# Altium integrated library Atmel Microcontroller 32-Bit AVR UC3.IntLib: 109 symbols (part 6 of 15)
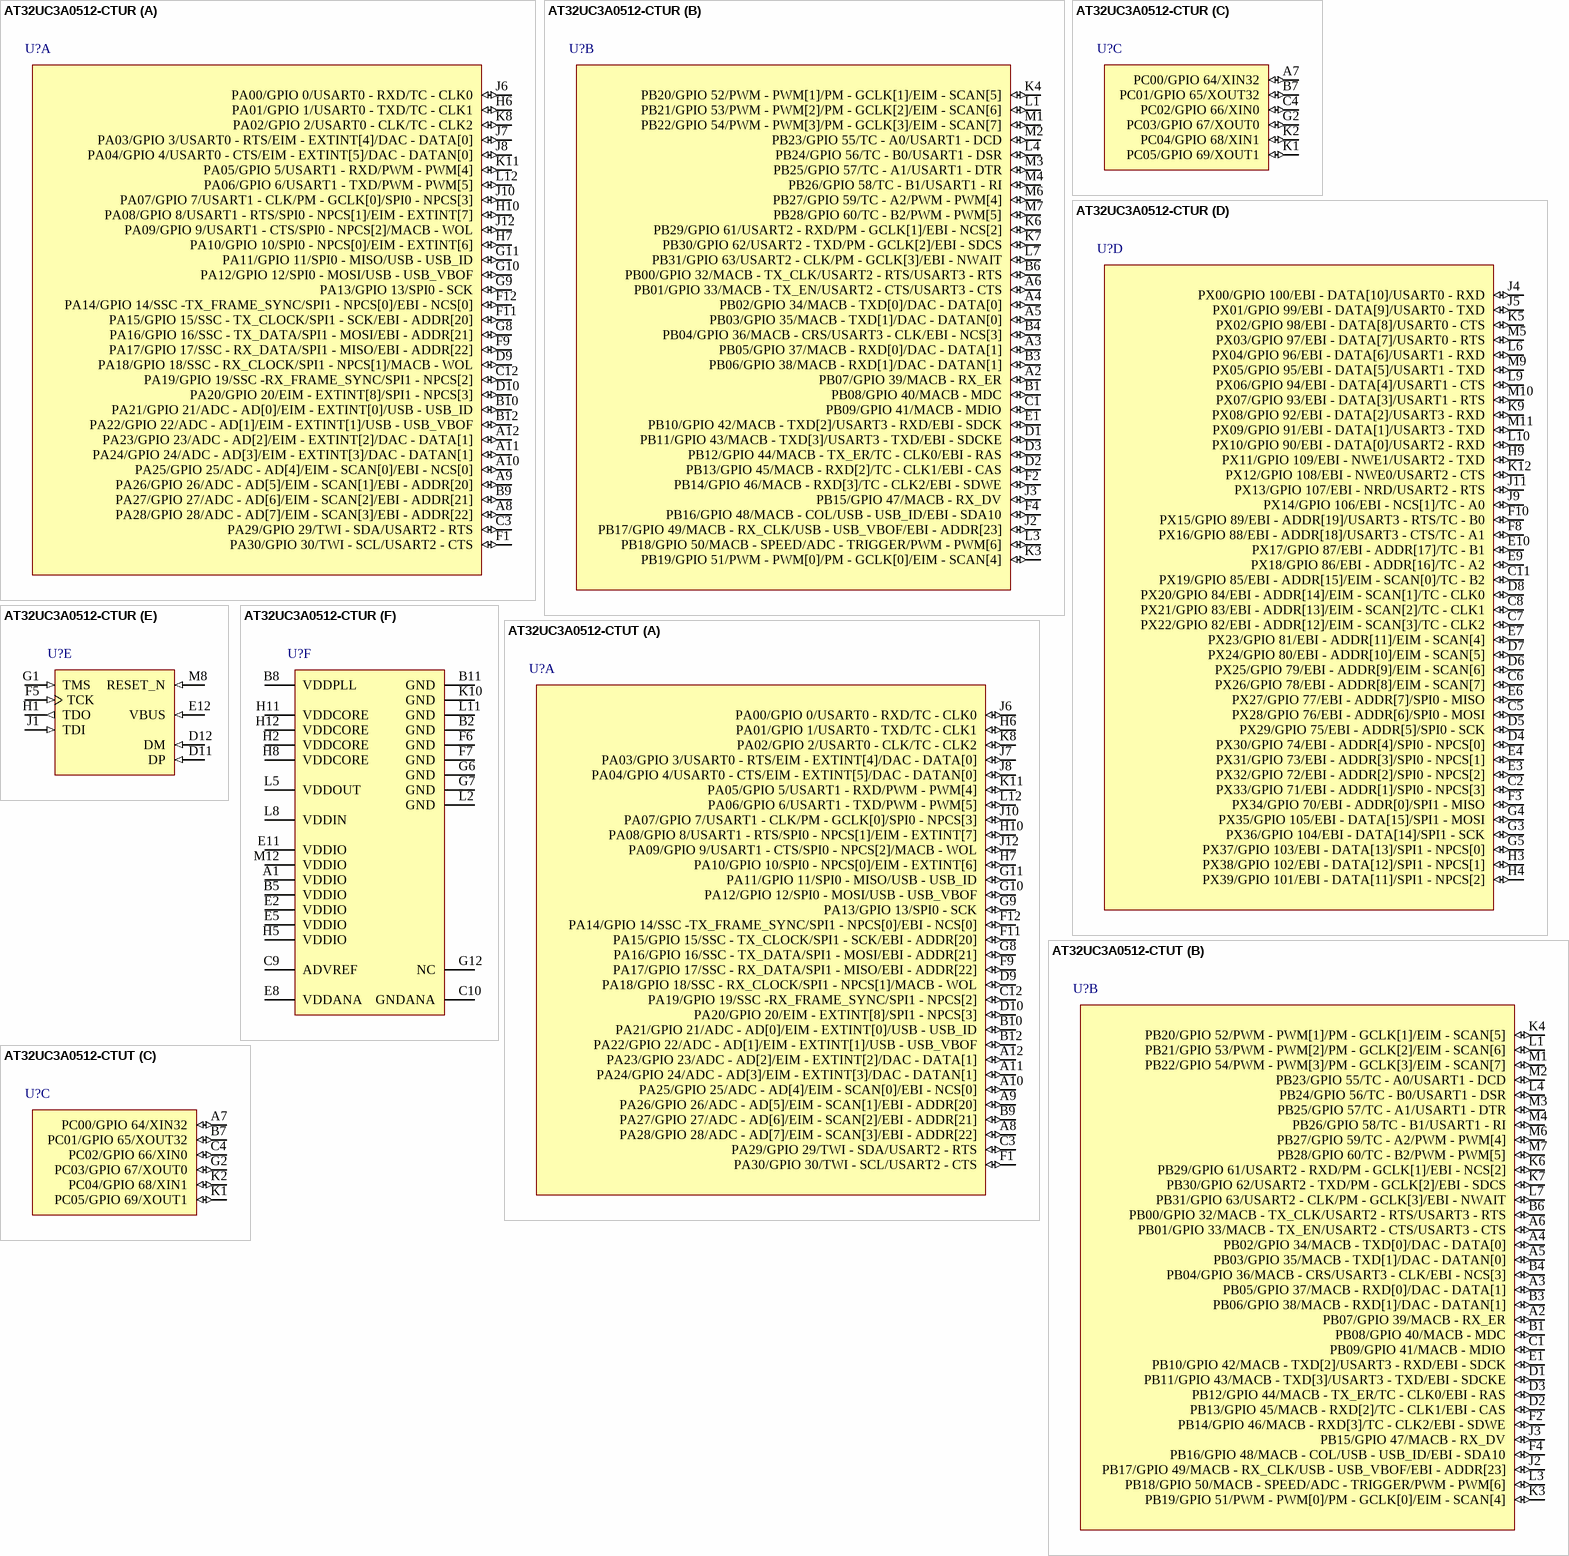
[diagram p75: symbols AT32UC3A0512-CTUR to AT32UC3A0512-CTUT]

## AT32UC3A0512-CTUR
designator U?
32-bit AVR UC3 Microcontroller, 512KB Flash, 64KB SRAM, 109 GPIO pins, Ext. Bus Interface, 144-Pin FFBGA, Industrial Grade, Reel; Published: 1-Apr-2010; DatasheetVersion: revI, Nov-2009; PackageVersion: 2009; PackageReference: FFBGA144; Publisher: Altium Limited; PackageDescription: 144-Ball Thin Fine Pitch BGA, 11 x 11 x 0.79 mm Body, 0.8 mm Pitch; Supplier 1: Digi-Key; Supplier Part Number 1: AT32UC3A0512-CTUR-ND; Supplier 2: Mouser; Supplier Part Number 2: 556-AT32UC3A0512CTUR; Code_JEDEC: MS-026; ComponentLink1Description: Manufacturer Link; ComponentLink1URL: http://www.atmel.com/products/avr/default.asp?; ComponentLink2Description: AT32UC3A Datasheet; ComponentLink2URL: http://www.atmel.com/dyn/resources/prod_documents/doc32058.pdf; ComponentLink3Description: AT32UC3A Summary; ComponentLink3URL: http://www.atmel.com/dyn/resources/prod_documents/32058S.pdf; ComponentLink4Description: Atmel.com Home; ComponentLink4URL: http://www.atmel.com
footprint FFBGA144 (BGA, 144-Leads, Body 11x11mm, Pitch 0.8mm)
part A pins: A8 PA28/GPIO 28/ADC - AD[7]/EIM - SCAN[3]/EBI - ADDR[22] (io), A9 PA26/GPIO 26/ADC - AD[5]/EIM - SCAN[1]/EBI - ADDR[20] (io), A10 PA25/GPIO 25/ADC - AD[4]/EIM - SCAN[0]/EBI - NCS[0] (io), A11 PA24/GPIO 24/ADC - AD[3]/EIM - EXTINT[3]/DAC - DATAN[1] (io), A12 PA23/GPIO 23/ADC - AD[2]/EIM - EXTINT[2]/DAC - DATA[1] (io), B9 PA27/GPIO 27/ADC - AD[6]/EIM - SCAN[2]/EBI - ADDR[21] (io), B10 PA21/GPIO 21/ADC - AD[0]/EIM - EXTINT[0]/USB - USB_ID (io), B12 PA22/GPIO 22/ADC - AD[1]/EIM - EXTINT[1]/USB - USB_VBOF (io), C3 PA29/GPIO 29/TWI - SDA/USART2 - RTS (io), C12 PA19/GPIO 19/SSC -RX_FRAME_SYNC/SPI1 - NPCS[2] (io), D9 PA18/GPIO 18/SSC - RX_CLOCK/SPI1 - NPCS[1]/MACB - WOL (io), D10 PA20/GPIO 20/EIM - EXTINT[8]/SPI1 - NPCS[3] (io), F1 PA30/GPIO 30/TWI - SCL/USART2 - CTS (io), F9 PA17/GPIO 17/SSC - RX_DATA/SPI1 - MISO/EBI - ADDR[22] (io), F11 PA15/GPIO 15/SSC - TX_CLOCK/SPI1 - SCK/EBI - ADDR[20] (io), F12 PA14/GPIO 14/SSC -TX_FRAME_SYNC/SPI1 - NPCS[0]/EBI - NCS[0] (io), G8 PA16/GPIO 16/SSC - TX_DATA/SPI1 - MOSI/EBI - ADDR[21] (io), G9 PA13/GPIO 13/SPI0 - SCK (io), G10 PA12/GPIO 12/SPI0 - MOSI/USB - USB_VBOF (io), G11 PA11/GPIO 11/SPI0 - MISO/USB - USB_ID (io), H6 PA01/GPIO 1/USART0 - TXD/TC - CLK1 (io), H7 PA10/GPIO 10/SPI0 - NPCS[0]/EIM - EXTINT[6] (io), H10 PA08/GPIO 8/USART1 - RTS/SPI0 - NPCS[1]/EIM - EXTINT[7] (io), J6 PA00/GPIO 0/USART0 - RXD/TC - CLK0 (io), J7 PA03/GPIO 3/USART0 - RTS/EIM - EXTINT[4]/DAC - DATA[0] (io), J8 PA04/GPIO 4/USART0 - CTS/EIM - EXTINT[5]/DAC - DATAN[0] (io), J10 PA07/GPIO 7/USART1 - CLK/PM - GCLK[0]/SPI0 - NPCS[3] (io), J12 PA09/GPIO 9/USART1 - CTS/SPI0 - NPCS[2]/MACB - WOL (io), K8 PA02/GPIO 2/USART0 - CLK/TC - CLK2 (io), K11 PA05/GPIO 5/USART1 - RXD/PWM - PWM[4] (io), L12 PA06/GPIO 6/USART1 - TXD/PWM - PWM[5] (io)
part B pins: A2 PB07/GPIO 39/MACB - RX_ER (io), A3 PB05/GPIO 37/MACB - RXD[0]/DAC - DATA[1] (io), A4 PB02/GPIO 34/MACB - TXD[0]/DAC - DATA[0] (io), A5 PB03/GPIO 35/MACB - TXD[1]/DAC - DATAN[0] (io), A6 PB01/GPIO 33/MACB - TX_EN/USART2 - CTS/USART3 - CTS (io), B1 PB08/GPIO 40/MACB - MDC (io), B3 PB06/GPIO 38/MACB - RXD[1]/DAC - DATAN[1] (io), B4 PB04/GPIO 36/MACB - CRS/USART3 - CLK/EBI - NCS[3] (io), B6 PB00/GPIO 32/MACB - TX_CLK/USART2 - RTS/USART3 - RTS (io), C1 PB09/GPIO 41/MACB - MDIO (io), D1 PB11/GPIO 43/MACB - TXD[3]/USART3 - TXD/EBI - SDCKE (io), D2 PB13/GPIO 45/MACB - RXD[2]/TC - CLK1/EBI - CAS (io), D3 PB12/GPIO 44/MACB - TX_ER/TC - CLK0/EBI - RAS (io), E1 PB10/GPIO 42/MACB - TXD[2]/USART3 - RXD/EBI - SDCK (io), F2 PB14/GPIO 46/MACB - RXD[3]/TC - CLK2/EBI - SDWE (io), F4 PB16/GPIO 48/MACB - COL/USB - USB_ID/EBI - SDA10 (io), J2 PB17/GPIO 49/MACB - RX_CLK/USB - USB_VBOF/EBI - ADDR[23] (io), J3 PB15/GPIO 47/MACB - RX_DV (io), K3 PB19/GPIO 51/PWM - PWM[0]/PM - GCLK[0]/EIM - SCAN[4] (io), K4 PB20/GPIO 52/PWM - PWM[1]/PM - GCLK[1]/EIM - SCAN[5] (io), K6 PB29/GPIO 61/USART2 - RXD/PM - GCLK[1]/EBI - NCS[2] (io), K7 PB30/GPIO 62/USART2 - TXD/PM - GCLK[2]/EBI - SDCS (io), L1 PB21/GPIO 53/PWM - PWM[2]/PM - GCLK[2]/EIM - SCAN[6] (io), L3 PB18/GPIO 50/MACB - SPEED/ADC - TRIGGER/PWM - PWM[6] (io), L4 PB24/GPIO 56/TC - B0/USART1 - DSR (io), L7 PB31/GPIO 63/USART2 - CLK/PM - GCLK[3]/EBI - NWAIT (io), M1 PB22/GPIO 54/PWM - PWM[3]/PM - GCLK[3]/EIM - SCAN[7] (io), M2 PB23/GPIO 55/TC - A0/USART1 - DCD (io), M3 PB25/GPIO 57/TC - A1/USART1 - DTR (io), M4 PB26/GPIO 58/TC - B1/USART1 - RI (io), M6 PB27/GPIO 59/TC - A2/PWM - PWM[4] (io), M7 PB28/GPIO 60/TC - B2/PWM - PWM[5] (io)
part C pins: A7 PC00/GPIO 64/XIN32 (io), B7 PC01/GPIO 65/XOUT32 (io), C4 PC02/GPIO 66/XIN0 (io), G2 PC03/GPIO 67/XOUT0 (io), K1 PC05/GPIO 69/XOUT1 (io), K2 PC04/GPIO 68/XIN1 (io)
part D pins: C2 PX33/GPIO 71/EBI - ADDR[1]/SPI0 - NPCS[3] (io), C5 PX28/GPIO 76/EBI - ADDR[6]/SPI0 - MOSI (io), C6 PX26/GPIO 78/EBI - ADDR[8]/EIM - SCAN[7] (io), C7 PX22/GPIO 82/EBI - ADDR[12]/EIM - SCAN[3]/TC - CLK2 (io), C8 PX21/GPIO 83/EBI - ADDR[13]/EIM - SCAN[2]/TC - CLK1 (io), C11 PX19/GPIO 85/EBI - ADDR[15]/EIM - SCAN[0]/TC - B2 (io), D4 PX30/GPIO 74/EBI - ADDR[4]/SPI0 - NPCS[0] (io), D5 PX29/GPIO 75/EBI - ADDR[5]/SPI0 - SCK (io), D6 PX25/GPIO 79/EBI - ADDR[9]/EIM - SCAN[6] (io), D7 PX24/GPIO 80/EBI - ADDR[10]/EIM - SCAN[5] (io), D8 PX20/GPIO 84/EBI - ADDR[14]/EIM - SCAN[1]/TC - CLK0 (io), E3 PX32/GPIO 72/EBI - ADDR[2]/SPI0 - NPCS[2] (io), E4 PX31/GPIO 73/EBI - ADDR[3]/SPI0 - NPCS[1] (io), E6 PX27/GPIO 77/EBI - ADDR[7]/SPI0 - MISO (io), E7 PX23/GPIO 81/EBI - ADDR[11]/EIM - SCAN[4] (io), E9 PX18/GPIO 86/EBI - ADDR[16]/TC - A2 (io), E10 PX17/GPIO 87/EBI - ADDR[17]/TC - B1 (io), F3 PX34/GPIO 70/EBI - ADDR[0]/SPI1 - MISO (io), F8 PX16/GPIO 88/EBI - ADDR[18]/USART3 - CTS/TC - A1 (io), F10 PX15/GPIO 89/EBI - ADDR[19]/USART3 - RTS/TC - B0 (io), G3 PX36/GPIO 104/EBI - DATA[14]/SPI1 - SCK (io), G4 PX35/GPIO 105/EBI - DATA[15]/SPI1 - MOSI (io), G5 PX37/GPIO 103/EBI - DATA[13]/SPI1 - NPCS[0] (io), H3 PX38/GPIO 102/EBI - DATA[12]/SPI1 - NPCS[1] (io), H4 PX39/GPIO 101/EBI - DATA[11]/SPI1 - NPCS[2] (io), H9 PX11/GPIO 109/EBI - NWE1/USART2 - TXD (io), J4 PX00/GPIO 100/EBI - DATA[10]/USART0 - RXD (io), J5 PX01/GPIO 99/EBI - DATA[9]/USART0 - TXD (io), J9 PX14/GPIO 106/EBI - NCS[1]/TC - A0 (io), J11 PX13/GPIO 107/EBI - NRD/USART2 - RTS (io), K5 PX02/GPIO 98/EBI - DATA[8]/USART0 - CTS (io), K9 PX08/GPIO 92/EBI - DATA[2]/USART3 - RXD (io), K12 PX12/GPIO 108/EBI - NWE0/USART2 - CTS (io), L6 PX04/GPIO 96/EBI - DATA[6]/USART1 - RXD (io), L9 PX06/GPIO 94/EBI - DATA[4]/USART1 - CTS (io), L10 PX10/GPIO 90/EBI - DATA[0]/USART2 - RXD (io), M5 PX03/GPIO 97/EBI - DATA[7]/USART0 - RTS (io), M9 PX05/GPIO 95/EBI - DATA[5]/USART1 - TXD (io), M10 PX07/GPIO 93/EBI - DATA[3]/USART1 - RTS (io), M11 PX09/GPIO 91/EBI - DATA[1]/USART3 - TXD (io)
part E pins: D11 DP (in), D12 DM (in), E12 VBUS (in), F5 TCK (in), G1 TMS (in), H1 TDO (out), J1 TDI (in), M8 RESET_N (in)
part F pins: A1 VDDIO (power), B2 GND (power), B5 VDDIO (power), B8 VDDPLL (power), B11 GND (power), C9 ADVREF (power), C10 GNDANA (power), E2 VDDIO (power), E5 VDDIO (power), E8 VDDANA (power), E11 VDDIO (power), F6 GND (power), F7 GND (power), G6 GND (power), G7 GND (power), G12 NC, H2 VDDCORE (power), H5 VDDIO (power), H8 VDDCORE (power), H11 VDDCORE (power), H12 VDDCORE (power), K10 GND (power), L2 GND (power), L5 VDDOUT (power), L8 VDDIN (power), L11 GND (power), M12 VDDIO (power)

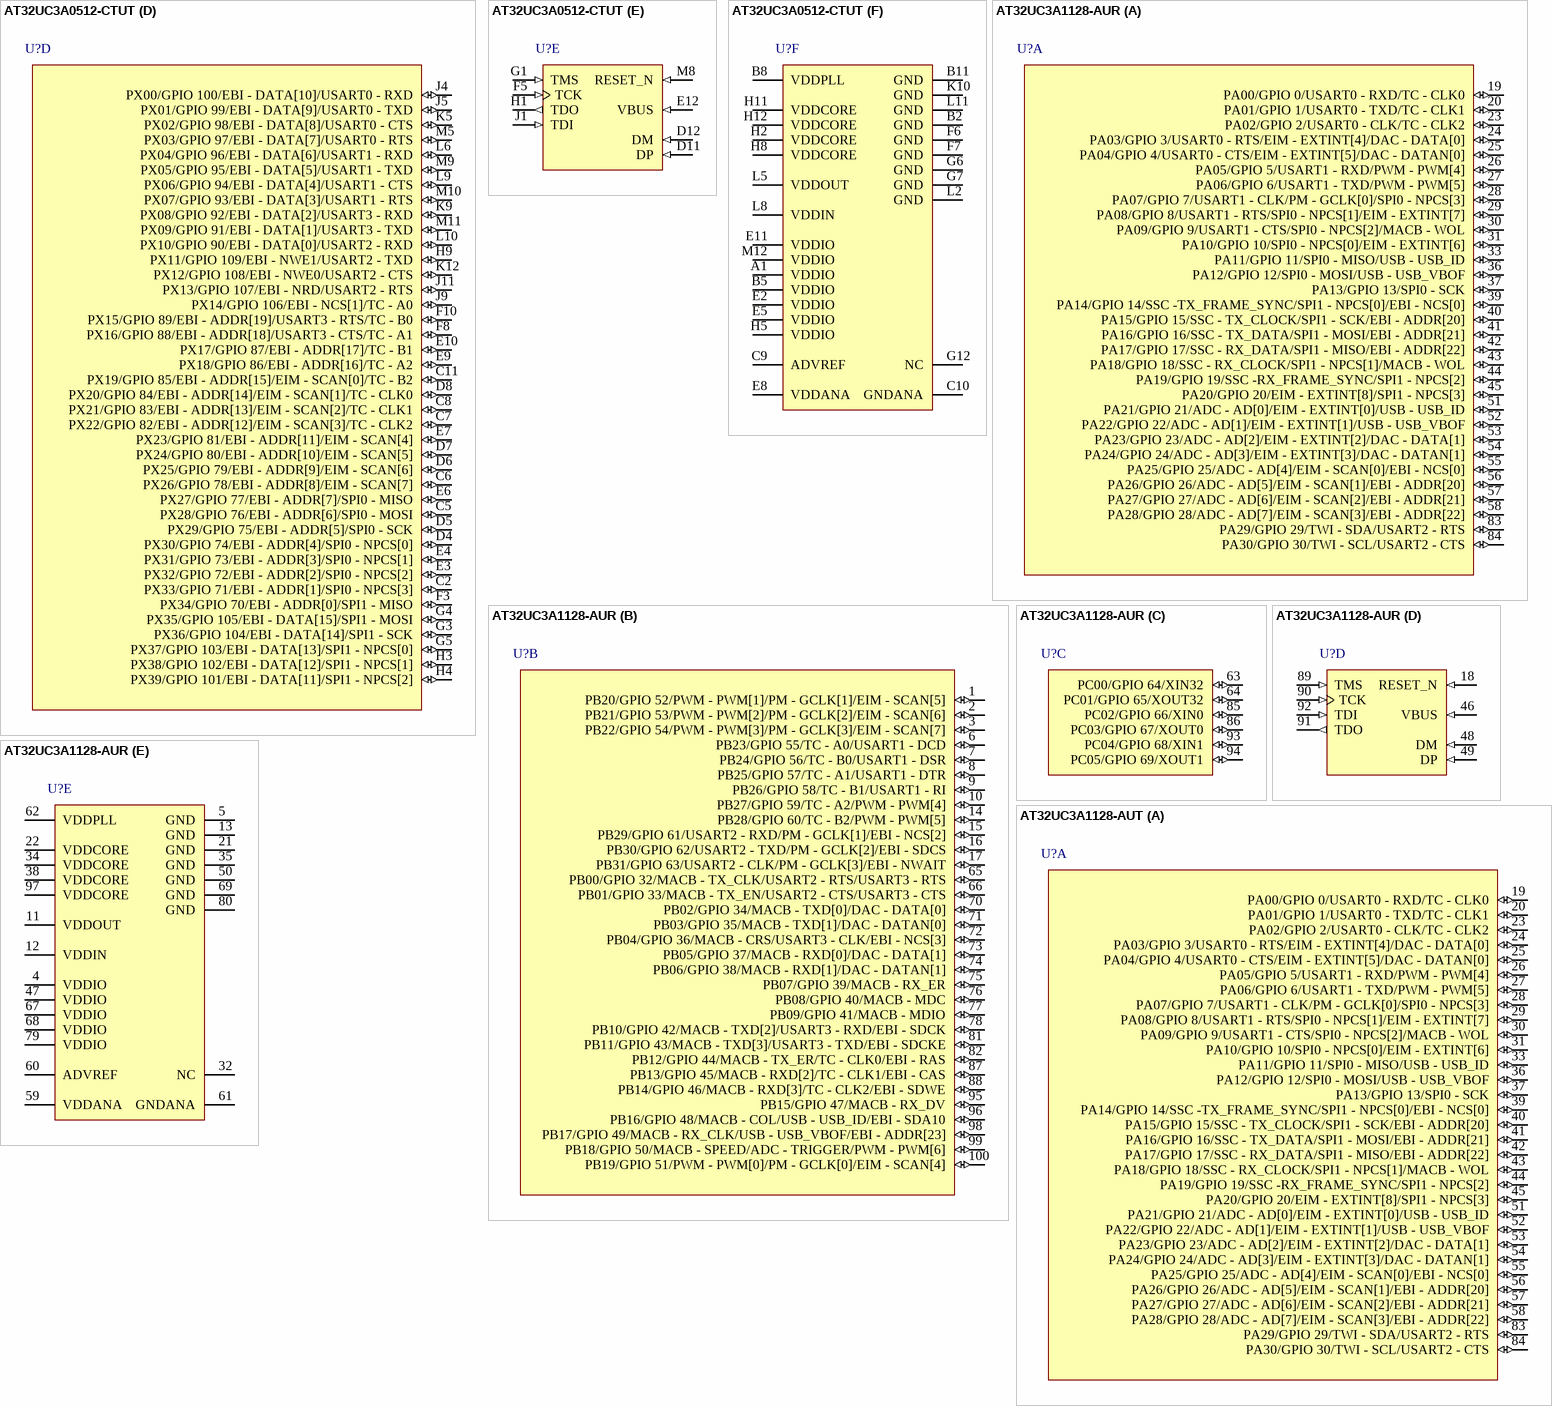
[diagram p24: symbols AT32UC3A0512-CTUT to AT32UC3A1128-AUT]

## AT32UC3A0512-CTUT
designator U?
32-bit AVR UC3 Microcontroller, 512KB Flash, 64KB SRAM, 109 GPIO pins, Ext. Bus Interface, 144-Pin FFBGA, Industrial Grade, Tray; Published: 1-Apr-2010; DatasheetVersion: revI, Nov-2009; PackageVersion: 2009; PackageReference: FFBGA144; Publisher: Altium Limited; PackageDescription: 144-Ball Thin Fine Pitch BGA, 11 x 11 x 0.79 mm Body, 0.8 mm Pitch; Supplier 1: Digi-Key; Supplier Part Number 1: AT32UC3A0512-CTUT-ND; Supplier 2: Mouser; Supplier Part Number 2: 556-AT32UC3A0512CTUT; Code_JEDEC: MS-026; ComponentLink1Description: Manufacturer Link; ComponentLink1URL: http://www.atmel.com/products/avr/default.asp?; ComponentLink2Description: AT32UC3A Datasheet; ComponentLink2URL: http://www.atmel.com/dyn/resources/prod_documents/doc32058.pdf; ComponentLink3Description: AT32UC3A Summary; ComponentLink3URL: http://www.atmel.com/dyn/resources/prod_documents/32058S.pdf; ComponentLink4Description: Atmel.com Home; ComponentLink4URL: http://www.atmel.com
footprint FFBGA144 (BGA, 144-Leads, Body 11x11mm, Pitch 0.8mm)
part A pins: A8 PA28/GPIO 28/ADC - AD[7]/EIM - SCAN[3]/EBI - ADDR[22] (io), A9 PA26/GPIO 26/ADC - AD[5]/EIM - SCAN[1]/EBI - ADDR[20] (io), A10 PA25/GPIO 25/ADC - AD[4]/EIM - SCAN[0]/EBI - NCS[0] (io), A11 PA24/GPIO 24/ADC - AD[3]/EIM - EXTINT[3]/DAC - DATAN[1] (io), A12 PA23/GPIO 23/ADC - AD[2]/EIM - EXTINT[2]/DAC - DATA[1] (io), B9 PA27/GPIO 27/ADC - AD[6]/EIM - SCAN[2]/EBI - ADDR[21] (io), B10 PA21/GPIO 21/ADC - AD[0]/EIM - EXTINT[0]/USB - USB_ID (io), B12 PA22/GPIO 22/ADC - AD[1]/EIM - EXTINT[1]/USB - USB_VBOF (io), C3 PA29/GPIO 29/TWI - SDA/USART2 - RTS (io), C12 PA19/GPIO 19/SSC -RX_FRAME_SYNC/SPI1 - NPCS[2] (io), D9 PA18/GPIO 18/SSC - RX_CLOCK/SPI1 - NPCS[1]/MACB - WOL (io), D10 PA20/GPIO 20/EIM - EXTINT[8]/SPI1 - NPCS[3] (io), F1 PA30/GPIO 30/TWI - SCL/USART2 - CTS (io), F9 PA17/GPIO 17/SSC - RX_DATA/SPI1 - MISO/EBI - ADDR[22] (io), F11 PA15/GPIO 15/SSC - TX_CLOCK/SPI1 - SCK/EBI - ADDR[20] (io), F12 PA14/GPIO 14/SSC -TX_FRAME_SYNC/SPI1 - NPCS[0]/EBI - NCS[0] (io), G8 PA16/GPIO 16/SSC - TX_DATA/SPI1 - MOSI/EBI - ADDR[21] (io), G9 PA13/GPIO 13/SPI0 - SCK (io), G10 PA12/GPIO 12/SPI0 - MOSI/USB - USB_VBOF (io), G11 PA11/GPIO 11/SPI0 - MISO/USB - USB_ID (io), H6 PA01/GPIO 1/USART0 - TXD/TC - CLK1 (io), H7 PA10/GPIO 10/SPI0 - NPCS[0]/EIM - EXTINT[6] (io), H10 PA08/GPIO 8/USART1 - RTS/SPI0 - NPCS[1]/EIM - EXTINT[7] (io), J6 PA00/GPIO 0/USART0 - RXD/TC - CLK0 (io), J7 PA03/GPIO 3/USART0 - RTS/EIM - EXTINT[4]/DAC - DATA[0] (io), J8 PA04/GPIO 4/USART0 - CTS/EIM - EXTINT[5]/DAC - DATAN[0] (io), J10 PA07/GPIO 7/USART1 - CLK/PM - GCLK[0]/SPI0 - NPCS[3] (io), J12 PA09/GPIO 9/USART1 - CTS/SPI0 - NPCS[2]/MACB - WOL (io), K8 PA02/GPIO 2/USART0 - CLK/TC - CLK2 (io), K11 PA05/GPIO 5/USART1 - RXD/PWM - PWM[4] (io), L12 PA06/GPIO 6/USART1 - TXD/PWM - PWM[5] (io)
part B pins: A2 PB07/GPIO 39/MACB - RX_ER (io), A3 PB05/GPIO 37/MACB - RXD[0]/DAC - DATA[1] (io), A4 PB02/GPIO 34/MACB - TXD[0]/DAC - DATA[0] (io), A5 PB03/GPIO 35/MACB - TXD[1]/DAC - DATAN[0] (io), A6 PB01/GPIO 33/MACB - TX_EN/USART2 - CTS/USART3 - CTS (io), B1 PB08/GPIO 40/MACB - MDC (io), B3 PB06/GPIO 38/MACB - RXD[1]/DAC - DATAN[1] (io), B4 PB04/GPIO 36/MACB - CRS/USART3 - CLK/EBI - NCS[3] (io), B6 PB00/GPIO 32/MACB - TX_CLK/USART2 - RTS/USART3 - RTS (io), C1 PB09/GPIO 41/MACB - MDIO (io), D1 PB11/GPIO 43/MACB - TXD[3]/USART3 - TXD/EBI - SDCKE (io), D2 PB13/GPIO 45/MACB - RXD[2]/TC - CLK1/EBI - CAS (io), D3 PB12/GPIO 44/MACB - TX_ER/TC - CLK0/EBI - RAS (io), E1 PB10/GPIO 42/MACB - TXD[2]/USART3 - RXD/EBI - SDCK (io), F2 PB14/GPIO 46/MACB - RXD[3]/TC - CLK2/EBI - SDWE (io), F4 PB16/GPIO 48/MACB - COL/USB - USB_ID/EBI - SDA10 (io), J2 PB17/GPIO 49/MACB - RX_CLK/USB - USB_VBOF/EBI - ADDR[23] (io), J3 PB15/GPIO 47/MACB - RX_DV (io), K3 PB19/GPIO 51/PWM - PWM[0]/PM - GCLK[0]/EIM - SCAN[4] (io), K4 PB20/GPIO 52/PWM - PWM[1]/PM - GCLK[1]/EIM - SCAN[5] (io), K6 PB29/GPIO 61/USART2 - RXD/PM - GCLK[1]/EBI - NCS[2] (io), K7 PB30/GPIO 62/USART2 - TXD/PM - GCLK[2]/EBI - SDCS (io), L1 PB21/GPIO 53/PWM - PWM[2]/PM - GCLK[2]/EIM - SCAN[6] (io), L3 PB18/GPIO 50/MACB - SPEED/ADC - TRIGGER/PWM - PWM[6] (io), L4 PB24/GPIO 56/TC - B0/USART1 - DSR (io), L7 PB31/GPIO 63/USART2 - CLK/PM - GCLK[3]/EBI - NWAIT (io), M1 PB22/GPIO 54/PWM - PWM[3]/PM - GCLK[3]/EIM - SCAN[7] (io), M2 PB23/GPIO 55/TC - A0/USART1 - DCD (io), M3 PB25/GPIO 57/TC - A1/USART1 - DTR (io), M4 PB26/GPIO 58/TC - B1/USART1 - RI (io), M6 PB27/GPIO 59/TC - A2/PWM - PWM[4] (io), M7 PB28/GPIO 60/TC - B2/PWM - PWM[5] (io)
part C pins: A7 PC00/GPIO 64/XIN32 (io), B7 PC01/GPIO 65/XOUT32 (io), C4 PC02/GPIO 66/XIN0 (io), G2 PC03/GPIO 67/XOUT0 (io), K1 PC05/GPIO 69/XOUT1 (io), K2 PC04/GPIO 68/XIN1 (io)
part D pins: C2 PX33/GPIO 71/EBI - ADDR[1]/SPI0 - NPCS[3] (io), C5 PX28/GPIO 76/EBI - ADDR[6]/SPI0 - MOSI (io), C6 PX26/GPIO 78/EBI - ADDR[8]/EIM - SCAN[7] (io), C7 PX22/GPIO 82/EBI - ADDR[12]/EIM - SCAN[3]/TC - CLK2 (io), C8 PX21/GPIO 83/EBI - ADDR[13]/EIM - SCAN[2]/TC - CLK1 (io), C11 PX19/GPIO 85/EBI - ADDR[15]/EIM - SCAN[0]/TC - B2 (io), D4 PX30/GPIO 74/EBI - ADDR[4]/SPI0 - NPCS[0] (io), D5 PX29/GPIO 75/EBI - ADDR[5]/SPI0 - SCK (io), D6 PX25/GPIO 79/EBI - ADDR[9]/EIM - SCAN[6] (io), D7 PX24/GPIO 80/EBI - ADDR[10]/EIM - SCAN[5] (io), D8 PX20/GPIO 84/EBI - ADDR[14]/EIM - SCAN[1]/TC - CLK0 (io), E3 PX32/GPIO 72/EBI - ADDR[2]/SPI0 - NPCS[2] (io), E4 PX31/GPIO 73/EBI - ADDR[3]/SPI0 - NPCS[1] (io), E6 PX27/GPIO 77/EBI - ADDR[7]/SPI0 - MISO (io), E7 PX23/GPIO 81/EBI - ADDR[11]/EIM - SCAN[4] (io), E9 PX18/GPIO 86/EBI - ADDR[16]/TC - A2 (io), E10 PX17/GPIO 87/EBI - ADDR[17]/TC - B1 (io), F3 PX34/GPIO 70/EBI - ADDR[0]/SPI1 - MISO (io), F8 PX16/GPIO 88/EBI - ADDR[18]/USART3 - CTS/TC - A1 (io), F10 PX15/GPIO 89/EBI - ADDR[19]/USART3 - RTS/TC - B0 (io), G3 PX36/GPIO 104/EBI - DATA[14]/SPI1 - SCK (io), G4 PX35/GPIO 105/EBI - DATA[15]/SPI1 - MOSI (io), G5 PX37/GPIO 103/EBI - DATA[13]/SPI1 - NPCS[0] (io), H3 PX38/GPIO 102/EBI - DATA[12]/SPI1 - NPCS[1] (io), H4 PX39/GPIO 101/EBI - DATA[11]/SPI1 - NPCS[2] (io), H9 PX11/GPIO 109/EBI - NWE1/USART2 - TXD (io), J4 PX00/GPIO 100/EBI - DATA[10]/USART0 - RXD (io), J5 PX01/GPIO 99/EBI - DATA[9]/USART0 - TXD (io), J9 PX14/GPIO 106/EBI - NCS[1]/TC - A0 (io), J11 PX13/GPIO 107/EBI - NRD/USART2 - RTS (io), K5 PX02/GPIO 98/EBI - DATA[8]/USART0 - CTS (io), K9 PX08/GPIO 92/EBI - DATA[2]/USART3 - RXD (io), K12 PX12/GPIO 108/EBI - NWE0/USART2 - CTS (io), L6 PX04/GPIO 96/EBI - DATA[6]/USART1 - RXD (io), L9 PX06/GPIO 94/EBI - DATA[4]/USART1 - CTS (io), L10 PX10/GPIO 90/EBI - DATA[0]/USART2 - RXD (io), M5 PX03/GPIO 97/EBI - DATA[7]/USART0 - RTS (io), M9 PX05/GPIO 95/EBI - DATA[5]/USART1 - TXD (io), M10 PX07/GPIO 93/EBI - DATA[3]/USART1 - RTS (io), M11 PX09/GPIO 91/EBI - DATA[1]/USART3 - TXD (io)
part E pins: D11 DP (in), D12 DM (in), E12 VBUS (in), F5 TCK (in), G1 TMS (in), H1 TDO (out), J1 TDI (in), M8 RESET_N (in)
part F pins: A1 VDDIO (power), B2 GND (power), B5 VDDIO (power), B8 VDDPLL (power), B11 GND (power), C9 ADVREF (power), C10 GNDANA (power), E2 VDDIO (power), E5 VDDIO (power), E8 VDDANA (power), E11 VDDIO (power), F6 GND (power), F7 GND (power), G6 GND (power), G7 GND (power), G12 NC, H2 VDDCORE (power), H5 VDDIO (power), H8 VDDCORE (power), H11 VDDCORE (power), H12 VDDCORE (power), K10 GND (power), L2 GND (power), L5 VDDOUT (power), L8 VDDIN (power), L11 GND (power), M12 VDDIO (power)

## AT32UC3A1128-AUR
designator U?
32-bit AVR UC3 Microcontroller, 128KB Flash, 32KB SRAM, 69 GPIO pins, 100-Pin TQFP, Industrial Grade, Reel; Published: 1-Apr-2010; DatasheetVersion: revI, Nov-2009; PackageVersion: rev.A, Nov-2001; PackageReference: 100T1; Publisher: Altium Limited; PackageDescription: 100-Pin Thin Quad Flat Pack 0.5 mm Pitch; Supplier 1: Digi-Key; Supplier Part Number 1: AT32UC3A1128-AUR-ND; Supplier 2: Mouser; Supplier Part Number 2: 556-AT32UC3A1128-AUR; Code_JEDEC: MS-026-AED; ComponentLink1Description: Manufacturer Link; ComponentLink1URL: http://www.atmel.com/products/avr/default.asp?; ComponentLink2Description: AT32UC3A Datasheet; ComponentLink2URL: http://www.atmel.com/dyn/resources/prod_documents/doc32058.pdf; ComponentLink3Description: AT32UC3A Summary; ComponentLink3URL: http://www.atmel.com/dyn/resources/prod_documents/32058S.pdf; ComponentLink4Description: Atmel.com Home; ComponentLink4URL: http://www.atmel.com
footprint 100T1_N (Thin QFP, 100-Leads, Body 14x14mm, Pitch 0.5mm, IPC Medium Density)
footprint 100T1_L (Thin QFP, 100-Leads, Body 14x14mm, Pitch 0.5mm, IPC High Density)
footprint 100T1_M (Thin QFP, 100-Leads, Body 14x14mm, Pitch 0.5mm, IPC Low Density)
part A pins: 19 PA00/GPIO 0/USART0 - RXD/TC - CLK0 (io), 20 PA01/GPIO 1/USART0 - TXD/TC - CLK1 (io), 23 PA02/GPIO 2/USART0 - CLK/TC - CLK2 (io), 24 PA03/GPIO 3/USART0 - RTS/EIM - EXTINT[4]/DAC - DATA[0] (io), 25 PA04/GPIO 4/USART0 - CTS/EIM - EXTINT[5]/DAC - DATAN[0] (io), 26 PA05/GPIO 5/USART1 - RXD/PWM - PWM[4] (io), 27 PA06/GPIO 6/USART1 - TXD/PWM - PWM[5] (io), 28 PA07/GPIO 7/USART1 - CLK/PM - GCLK[0]/SPI0 - NPCS[3] (io), 29 PA08/GPIO 8/USART1 - RTS/SPI0 - NPCS[1]/EIM - EXTINT[7] (io), 30 PA09/GPIO 9/USART1 - CTS/SPI0 - NPCS[2]/MACB - WOL (io), 31 PA10/GPIO 10/SPI0 - NPCS[0]/EIM - EXTINT[6] (io), 33 PA11/GPIO 11/SPI0 - MISO/USB - USB_ID (io), 36 PA12/GPIO 12/SPI0 - MOSI/USB - USB_VBOF (io), 37 PA13/GPIO 13/SPI0 - SCK (io), 39 PA14/GPIO 14/SSC -TX_FRAME_SYNC/SPI1 - NPCS[0]/EBI - NCS[0] (io), 40 PA15/GPIO 15/SSC - TX_CLOCK/SPI1 - SCK/EBI - ADDR[20] (io), 41 PA16/GPIO 16/SSC - TX_DATA/SPI1 - MOSI/EBI - ADDR[21] (io), 42 PA17/GPIO 17/SSC - RX_DATA/SPI1 - MISO/EBI - ADDR[22] (io), 43 PA18/GPIO 18/SSC - RX_CLOCK/SPI1 - NPCS[1]/MACB - WOL (io), 44 PA19/GPIO 19/SSC -RX_FRAME_SYNC/SPI1 - NPCS[2] (io), 45 PA20/GPIO 20/EIM - EXTINT[8]/SPI1 - NPCS[3] (io), 51 PA21/GPIO 21/ADC - AD[0]/EIM - EXTINT[0]/USB - USB_ID (io), 52 PA22/GPIO 22/ADC - AD[1]/EIM - EXTINT[1]/USB - USB_VBOF (io), 53 PA23/GPIO 23/ADC - AD[2]/EIM - EXTINT[2]/DAC - DATA[1] (io), 54 PA24/GPIO 24/ADC - AD[3]/EIM - EXTINT[3]/DAC - DATAN[1] (io), 55 PA25/GPIO 25/ADC - AD[4]/EIM - SCAN[0]/EBI - NCS[0] (io), 56 PA26/GPIO 26/ADC - AD[5]/EIM - SCAN[1]/EBI - ADDR[20] (io), 57 PA27/GPIO 27/ADC - AD[6]/EIM - SCAN[2]/EBI - ADDR[21] (io), 58 PA28/GPIO 28/ADC - AD[7]/EIM - SCAN[3]/EBI - ADDR[22] (io), 83 PA29/GPIO 29/TWI - SDA/USART2 - RTS (io), 84 PA30/GPIO 30/TWI - SCL/USART2 - CTS (io)
part B pins: 1 PB20/GPIO 52/PWM - PWM[1]/PM - GCLK[1]/EIM - SCAN[5] (io), 2 PB21/GPIO 53/PWM - PWM[2]/PM - GCLK[2]/EIM - SCAN[6] (io), 3 PB22/GPIO 54/PWM - PWM[3]/PM - GCLK[3]/EIM - SCAN[7] (io), 6 PB23/GPIO 55/TC - A0/USART1 - DCD (io), 7 PB24/GPIO 56/TC - B0/USART1 - DSR (io), 8 PB25/GPIO 57/TC - A1/USART1 - DTR (io), 9 PB26/GPIO 58/TC - B1/USART1 - RI (io), 10 PB27/GPIO 59/TC - A2/PWM - PWM[4] (io), 14 PB28/GPIO 60/TC - B2/PWM - PWM[5] (io), 15 PB29/GPIO 61/USART2 - RXD/PM - GCLK[1]/EBI - NCS[2] (io), 16 PB30/GPIO 62/USART2 - TXD/PM - GCLK[2]/EBI - SDCS (io), 17 PB31/GPIO 63/USART2 - CLK/PM - GCLK[3]/EBI - NWAIT (io), 65 PB00/GPIO 32/MACB - TX_CLK/USART2 - RTS/USART3 - RTS (io), 66 PB01/GPIO 33/MACB - TX_EN/USART2 - CTS/USART3 - CTS (io), 70 PB02/GPIO 34/MACB - TXD[0]/DAC - DATA[0] (io), 71 PB03/GPIO 35/MACB - TXD[1]/DAC - DATAN[0] (io), 72 PB04/GPIO 36/MACB - CRS/USART3 - CLK/EBI - NCS[3] (io), 73 PB05/GPIO 37/MACB - RXD[0]/DAC - DATA[1] (io), 74 PB06/GPIO 38/MACB - RXD[1]/DAC - DATAN[1] (io), 75 PB07/GPIO 39/MACB - RX_ER (io), 76 PB08/GPIO 40/MACB - MDC (io), 77 PB09/GPIO 41/MACB - MDIO (io), 78 PB10/GPIO 42/MACB - TXD[2]/USART3 - RXD/EBI - SDCK (io), 81 PB11/GPIO 43/MACB - TXD[3]/USART3 - TXD/EBI - SDCKE (io), 82 PB12/GPIO 44/MACB - TX_ER/TC - CLK0/EBI - RAS (io), 87 PB13/GPIO 45/MACB - RXD[2]/TC - CLK1/EBI - CAS (io), 88 PB14/GPIO 46/MACB - RXD[3]/TC - CLK2/EBI - SDWE (io), 95 PB15/GPIO 47/MACB - RX_DV (io), 96 PB16/GPIO 48/MACB - COL/USB - USB_ID/EBI - SDA10 (io), 98 PB17/GPIO 49/MACB - RX_CLK/USB - USB_VBOF/EBI - ADDR[23] (io), 99 PB18/GPIO 50/MACB - SPEED/ADC - TRIGGER/PWM - PWM[6] (io), 100 PB19/GPIO 51/PWM - PWM[0]/PM - GCLK[0]/EIM - SCAN[4] (io)
part C pins: 63 PC00/GPIO 64/XIN32 (io), 64 PC01/GPIO 65/XOUT32 (io), 85 PC02/GPIO 66/XIN0 (io), 86 PC03/GPIO 67/XOUT0 (io), 93 PC04/GPIO 68/XIN1 (io), 94 PC05/GPIO 69/XOUT1 (io)
part D pins: 18 RESET_N (in), 46 VBUS (in), 48 DM (in), 49 DP (in), 89 TMS (in), 90 TCK (in), 91 TDO (out), 92 TDI (in)
part E pins: 4 VDDIO (power), 5 GND (power), 11 VDDOUT (power), 12 VDDIN (power), 13 GND (power), 21 GND (power), 22 VDDCORE (power), 32 NC, 34 VDDCORE (power), 35 GND (power), 38 VDDCORE (power), 47 VDDIO (power), 50 GND (power), 59 VDDANA (power), 60 ADVREF (power), 61 GNDANA (power), 62 VDDPLL (power), 67 VDDIO (power), 68 VDDIO (power), 69 GND (power), 79 VDDIO (power), 80 GND (power), 97 VDDCORE (power)

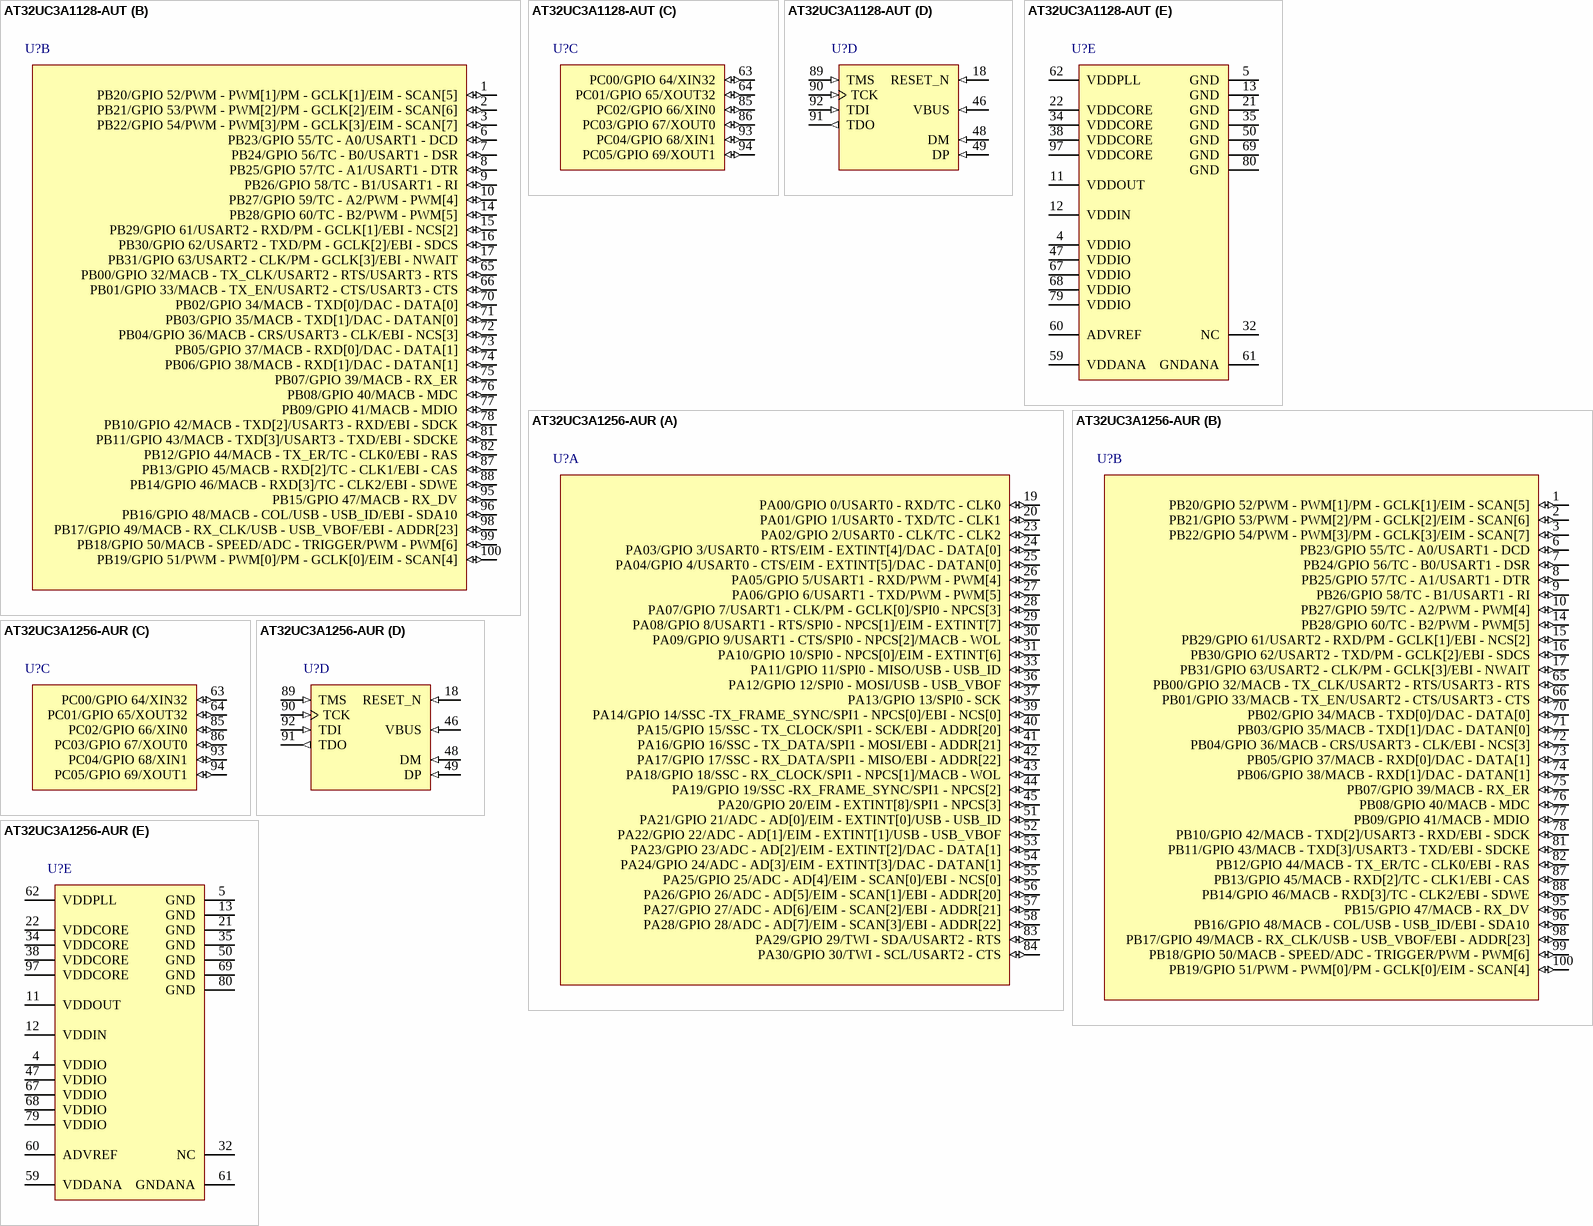
[diagram p25: symbols AT32UC3A1128-AUT to AT32UC3A1256-AUR]

## AT32UC3A1128-AUT
designator U?
32-bit AVR UC3 Microcontroller, 128KB Flash, 32KB SRAM, 69 GPIO pins, 100-Pin TQFP, Industrial Grade, Tray; Published: 1-Apr-2010; DatasheetVersion: revI, Nov-2009; PackageVersion: rev.A, Nov-2001; PackageReference: 100T1; Publisher: Altium Limited; PackageDescription: 100-Pin Thin Quad Flat Pack 0.5 mm Pitch; Supplier 1: Digi-Key; Supplier Part Number 1: AT32UC3A1128-AUT-ND; Supplier 2: Mouser; Supplier Part Number 2: 556-AT32UC3A1128-AUT; Code_JEDEC: MS-026-AED; ComponentLink1Description: Manufacturer Link; ComponentLink1URL: http://www.atmel.com/products/avr/default.asp?; ComponentLink2Description: AT32UC3A Datasheet; ComponentLink2URL: http://www.atmel.com/dyn/resources/prod_documents/doc32058.pdf; ComponentLink3Description: AT32UC3A Summary; ComponentLink3URL: http://www.atmel.com/dyn/resources/prod_documents/32058S.pdf; ComponentLink4Description: Atmel.com Home; ComponentLink4URL: http://www.atmel.com
footprint 100T1_N (Thin QFP, 100-Leads, Body 14x14mm, Pitch 0.5mm, IPC Medium Density)
footprint 100T1_L (Thin QFP, 100-Leads, Body 14x14mm, Pitch 0.5mm, IPC High Density)
footprint 100T1_M (Thin QFP, 100-Leads, Body 14x14mm, Pitch 0.5mm, IPC Low Density)
part A pins: 19 PA00/GPIO 0/USART0 - RXD/TC - CLK0 (io), 20 PA01/GPIO 1/USART0 - TXD/TC - CLK1 (io), 23 PA02/GPIO 2/USART0 - CLK/TC - CLK2 (io), 24 PA03/GPIO 3/USART0 - RTS/EIM - EXTINT[4]/DAC - DATA[0] (io), 25 PA04/GPIO 4/USART0 - CTS/EIM - EXTINT[5]/DAC - DATAN[0] (io), 26 PA05/GPIO 5/USART1 - RXD/PWM - PWM[4] (io), 27 PA06/GPIO 6/USART1 - TXD/PWM - PWM[5] (io), 28 PA07/GPIO 7/USART1 - CLK/PM - GCLK[0]/SPI0 - NPCS[3] (io), 29 PA08/GPIO 8/USART1 - RTS/SPI0 - NPCS[1]/EIM - EXTINT[7] (io), 30 PA09/GPIO 9/USART1 - CTS/SPI0 - NPCS[2]/MACB - WOL (io), 31 PA10/GPIO 10/SPI0 - NPCS[0]/EIM - EXTINT[6] (io), 33 PA11/GPIO 11/SPI0 - MISO/USB - USB_ID (io), 36 PA12/GPIO 12/SPI0 - MOSI/USB - USB_VBOF (io), 37 PA13/GPIO 13/SPI0 - SCK (io), 39 PA14/GPIO 14/SSC -TX_FRAME_SYNC/SPI1 - NPCS[0]/EBI - NCS[0] (io), 40 PA15/GPIO 15/SSC - TX_CLOCK/SPI1 - SCK/EBI - ADDR[20] (io), 41 PA16/GPIO 16/SSC - TX_DATA/SPI1 - MOSI/EBI - ADDR[21] (io), 42 PA17/GPIO 17/SSC - RX_DATA/SPI1 - MISO/EBI - ADDR[22] (io), 43 PA18/GPIO 18/SSC - RX_CLOCK/SPI1 - NPCS[1]/MACB - WOL (io), 44 PA19/GPIO 19/SSC -RX_FRAME_SYNC/SPI1 - NPCS[2] (io), 45 PA20/GPIO 20/EIM - EXTINT[8]/SPI1 - NPCS[3] (io), 51 PA21/GPIO 21/ADC - AD[0]/EIM - EXTINT[0]/USB - USB_ID (io), 52 PA22/GPIO 22/ADC - AD[1]/EIM - EXTINT[1]/USB - USB_VBOF (io), 53 PA23/GPIO 23/ADC - AD[2]/EIM - EXTINT[2]/DAC - DATA[1] (io), 54 PA24/GPIO 24/ADC - AD[3]/EIM - EXTINT[3]/DAC - DATAN[1] (io), 55 PA25/GPIO 25/ADC - AD[4]/EIM - SCAN[0]/EBI - NCS[0] (io), 56 PA26/GPIO 26/ADC - AD[5]/EIM - SCAN[1]/EBI - ADDR[20] (io), 57 PA27/GPIO 27/ADC - AD[6]/EIM - SCAN[2]/EBI - ADDR[21] (io), 58 PA28/GPIO 28/ADC - AD[7]/EIM - SCAN[3]/EBI - ADDR[22] (io), 83 PA29/GPIO 29/TWI - SDA/USART2 - RTS (io), 84 PA30/GPIO 30/TWI - SCL/USART2 - CTS (io)
part B pins: 1 PB20/GPIO 52/PWM - PWM[1]/PM - GCLK[1]/EIM - SCAN[5] (io), 2 PB21/GPIO 53/PWM - PWM[2]/PM - GCLK[2]/EIM - SCAN[6] (io), 3 PB22/GPIO 54/PWM - PWM[3]/PM - GCLK[3]/EIM - SCAN[7] (io), 6 PB23/GPIO 55/TC - A0/USART1 - DCD (io), 7 PB24/GPIO 56/TC - B0/USART1 - DSR (io), 8 PB25/GPIO 57/TC - A1/USART1 - DTR (io), 9 PB26/GPIO 58/TC - B1/USART1 - RI (io), 10 PB27/GPIO 59/TC - A2/PWM - PWM[4] (io), 14 PB28/GPIO 60/TC - B2/PWM - PWM[5] (io), 15 PB29/GPIO 61/USART2 - RXD/PM - GCLK[1]/EBI - NCS[2] (io), 16 PB30/GPIO 62/USART2 - TXD/PM - GCLK[2]/EBI - SDCS (io), 17 PB31/GPIO 63/USART2 - CLK/PM - GCLK[3]/EBI - NWAIT (io), 65 PB00/GPIO 32/MACB - TX_CLK/USART2 - RTS/USART3 - RTS (io), 66 PB01/GPIO 33/MACB - TX_EN/USART2 - CTS/USART3 - CTS (io), 70 PB02/GPIO 34/MACB - TXD[0]/DAC - DATA[0] (io), 71 PB03/GPIO 35/MACB - TXD[1]/DAC - DATAN[0] (io), 72 PB04/GPIO 36/MACB - CRS/USART3 - CLK/EBI - NCS[3] (io), 73 PB05/GPIO 37/MACB - RXD[0]/DAC - DATA[1] (io), 74 PB06/GPIO 38/MACB - RXD[1]/DAC - DATAN[1] (io), 75 PB07/GPIO 39/MACB - RX_ER (io), 76 PB08/GPIO 40/MACB - MDC (io), 77 PB09/GPIO 41/MACB - MDIO (io), 78 PB10/GPIO 42/MACB - TXD[2]/USART3 - RXD/EBI - SDCK (io), 81 PB11/GPIO 43/MACB - TXD[3]/USART3 - TXD/EBI - SDCKE (io), 82 PB12/GPIO 44/MACB - TX_ER/TC - CLK0/EBI - RAS (io), 87 PB13/GPIO 45/MACB - RXD[2]/TC - CLK1/EBI - CAS (io), 88 PB14/GPIO 46/MACB - RXD[3]/TC - CLK2/EBI - SDWE (io), 95 PB15/GPIO 47/MACB - RX_DV (io), 96 PB16/GPIO 48/MACB - COL/USB - USB_ID/EBI - SDA10 (io), 98 PB17/GPIO 49/MACB - RX_CLK/USB - USB_VBOF/EBI - ADDR[23] (io), 99 PB18/GPIO 50/MACB - SPEED/ADC - TRIGGER/PWM - PWM[6] (io), 100 PB19/GPIO 51/PWM - PWM[0]/PM - GCLK[0]/EIM - SCAN[4] (io)
part C pins: 63 PC00/GPIO 64/XIN32 (io), 64 PC01/GPIO 65/XOUT32 (io), 85 PC02/GPIO 66/XIN0 (io), 86 PC03/GPIO 67/XOUT0 (io), 93 PC04/GPIO 68/XIN1 (io), 94 PC05/GPIO 69/XOUT1 (io)
part D pins: 18 RESET_N (in), 46 VBUS (in), 48 DM (in), 49 DP (in), 89 TMS (in), 90 TCK (in), 91 TDO (out), 92 TDI (in)
part E pins: 4 VDDIO (power), 5 GND (power), 11 VDDOUT (power), 12 VDDIN (power), 13 GND (power), 21 GND (power), 22 VDDCORE (power), 32 NC, 34 VDDCORE (power), 35 GND (power), 38 VDDCORE (power), 47 VDDIO (power), 50 GND (power), 59 VDDANA (power), 60 ADVREF (power), 61 GNDANA (power), 62 VDDPLL (power), 67 VDDIO (power), 68 VDDIO (power), 69 GND (power), 79 VDDIO (power), 80 GND (power), 97 VDDCORE (power)

## AT32UC3A1256-AUR
designator U?
32-bit AVR UC3 Microcontroller, 256KB Flash, 64KB SRAM, 69 GPIO pins, 100-Pin TQFP, Industrial Grade, Reel; Published: 1-Apr-2010; DatasheetVersion: revI, Nov-2009; PackageVersion: rev.A, Nov-2001; PackageReference: 100T1; Publisher: Altium Limited; PackageDescription: 100-Pin Thin Quad Flat Pack 0.5 mm Pitch; Supplier 1: Digi-Key; Supplier Part Number 1: AT32UC3A1256-AUR-ND; Supplier 2: Mouser; Supplier Part Number 2: 556-AT32UC3A1256-AUR; Code_JEDEC: MS-026-AED; ComponentLink1Description: Manufacturer Link; ComponentLink1URL: http://www.atmel.com/products/avr/default.asp?; ComponentLink2Description: AT32UC3A Datasheet; ComponentLink2URL: http://www.atmel.com/dyn/resources/prod_documents/doc32058.pdf; ComponentLink3Description: AT32UC3A Summary; ComponentLink3URL: http://www.atmel.com/dyn/resources/prod_documents/32058S.pdf; ComponentLink4Description: Atmel.com Home; ComponentLink4URL: http://www.atmel.com
footprint 100T1_N (Thin QFP, 100-Leads, Body 14x14mm, Pitch 0.5mm, IPC Medium Density)
footprint 100T1_L (Thin QFP, 100-Leads, Body 14x14mm, Pitch 0.5mm, IPC High Density)
footprint 100T1_M (Thin QFP, 100-Leads, Body 14x14mm, Pitch 0.5mm, IPC Low Density)
part A pins: 19 PA00/GPIO 0/USART0 - RXD/TC - CLK0 (io), 20 PA01/GPIO 1/USART0 - TXD/TC - CLK1 (io), 23 PA02/GPIO 2/USART0 - CLK/TC - CLK2 (io), 24 PA03/GPIO 3/USART0 - RTS/EIM - EXTINT[4]/DAC - DATA[0] (io), 25 PA04/GPIO 4/USART0 - CTS/EIM - EXTINT[5]/DAC - DATAN[0] (io), 26 PA05/GPIO 5/USART1 - RXD/PWM - PWM[4] (io), 27 PA06/GPIO 6/USART1 - TXD/PWM - PWM[5] (io), 28 PA07/GPIO 7/USART1 - CLK/PM - GCLK[0]/SPI0 - NPCS[3] (io), 29 PA08/GPIO 8/USART1 - RTS/SPI0 - NPCS[1]/EIM - EXTINT[7] (io), 30 PA09/GPIO 9/USART1 - CTS/SPI0 - NPCS[2]/MACB - WOL (io), 31 PA10/GPIO 10/SPI0 - NPCS[0]/EIM - EXTINT[6] (io), 33 PA11/GPIO 11/SPI0 - MISO/USB - USB_ID (io), 36 PA12/GPIO 12/SPI0 - MOSI/USB - USB_VBOF (io), 37 PA13/GPIO 13/SPI0 - SCK (io), 39 PA14/GPIO 14/SSC -TX_FRAME_SYNC/SPI1 - NPCS[0]/EBI - NCS[0] (io), 40 PA15/GPIO 15/SSC - TX_CLOCK/SPI1 - SCK/EBI - ADDR[20] (io), 41 PA16/GPIO 16/SSC - TX_DATA/SPI1 - MOSI/EBI - ADDR[21] (io), 42 PA17/GPIO 17/SSC - RX_DATA/SPI1 - MISO/EBI - ADDR[22] (io), 43 PA18/GPIO 18/SSC - RX_CLOCK/SPI1 - NPCS[1]/MACB - WOL (io), 44 PA19/GPIO 19/SSC -RX_FRAME_SYNC/SPI1 - NPCS[2] (io), 45 PA20/GPIO 20/EIM - EXTINT[8]/SPI1 - NPCS[3] (io), 51 PA21/GPIO 21/ADC - AD[0]/EIM - EXTINT[0]/USB - USB_ID (io), 52 PA22/GPIO 22/ADC - AD[1]/EIM - EXTINT[1]/USB - USB_VBOF (io), 53 PA23/GPIO 23/ADC - AD[2]/EIM - EXTINT[2]/DAC - DATA[1] (io), 54 PA24/GPIO 24/ADC - AD[3]/EIM - EXTINT[3]/DAC - DATAN[1] (io), 55 PA25/GPIO 25/ADC - AD[4]/EIM - SCAN[0]/EBI - NCS[0] (io), 56 PA26/GPIO 26/ADC - AD[5]/EIM - SCAN[1]/EBI - ADDR[20] (io), 57 PA27/GPIO 27/ADC - AD[6]/EIM - SCAN[2]/EBI - ADDR[21] (io), 58 PA28/GPIO 28/ADC - AD[7]/EIM - SCAN[3]/EBI - ADDR[22] (io), 83 PA29/GPIO 29/TWI - SDA/USART2 - RTS (io), 84 PA30/GPIO 30/TWI - SCL/USART2 - CTS (io)
part B pins: 1 PB20/GPIO 52/PWM - PWM[1]/PM - GCLK[1]/EIM - SCAN[5] (io), 2 PB21/GPIO 53/PWM - PWM[2]/PM - GCLK[2]/EIM - SCAN[6] (io), 3 PB22/GPIO 54/PWM - PWM[3]/PM - GCLK[3]/EIM - SCAN[7] (io), 6 PB23/GPIO 55/TC - A0/USART1 - DCD (io), 7 PB24/GPIO 56/TC - B0/USART1 - DSR (io), 8 PB25/GPIO 57/TC - A1/USART1 - DTR (io), 9 PB26/GPIO 58/TC - B1/USART1 - RI (io), 10 PB27/GPIO 59/TC - A2/PWM - PWM[4] (io), 14 PB28/GPIO 60/TC - B2/PWM - PWM[5] (io), 15 PB29/GPIO 61/USART2 - RXD/PM - GCLK[1]/EBI - NCS[2] (io), 16 PB30/GPIO 62/USART2 - TXD/PM - GCLK[2]/EBI - SDCS (io), 17 PB31/GPIO 63/USART2 - CLK/PM - GCLK[3]/EBI - NWAIT (io), 65 PB00/GPIO 32/MACB - TX_CLK/USART2 - RTS/USART3 - RTS (io), 66 PB01/GPIO 33/MACB - TX_EN/USART2 - CTS/USART3 - CTS (io), 70 PB02/GPIO 34/MACB - TXD[0]/DAC - DATA[0] (io), 71 PB03/GPIO 35/MACB - TXD[1]/DAC - DATAN[0] (io), 72 PB04/GPIO 36/MACB - CRS/USART3 - CLK/EBI - NCS[3] (io), 73 PB05/GPIO 37/MACB - RXD[0]/DAC - DATA[1] (io), 74 PB06/GPIO 38/MACB - RXD[1]/DAC - DATAN[1] (io), 75 PB07/GPIO 39/MACB - RX_ER (io), 76 PB08/GPIO 40/MACB - MDC (io), 77 PB09/GPIO 41/MACB - MDIO (io), 78 PB10/GPIO 42/MACB - TXD[2]/USART3 - RXD/EBI - SDCK (io), 81 PB11/GPIO 43/MACB - TXD[3]/USART3 - TXD/EBI - SDCKE (io), 82 PB12/GPIO 44/MACB - TX_ER/TC - CLK0/EBI - RAS (io), 87 PB13/GPIO 45/MACB - RXD[2]/TC - CLK1/EBI - CAS (io), 88 PB14/GPIO 46/MACB - RXD[3]/TC - CLK2/EBI - SDWE (io), 95 PB15/GPIO 47/MACB - RX_DV (io), 96 PB16/GPIO 48/MACB - COL/USB - USB_ID/EBI - SDA10 (io), 98 PB17/GPIO 49/MACB - RX_CLK/USB - USB_VBOF/EBI - ADDR[23] (io), 99 PB18/GPIO 50/MACB - SPEED/ADC - TRIGGER/PWM - PWM[6] (io), 100 PB19/GPIO 51/PWM - PWM[0]/PM - GCLK[0]/EIM - SCAN[4] (io)
part C pins: 63 PC00/GPIO 64/XIN32 (io), 64 PC01/GPIO 65/XOUT32 (io), 85 PC02/GPIO 66/XIN0 (io), 86 PC03/GPIO 67/XOUT0 (io), 93 PC04/GPIO 68/XIN1 (io), 94 PC05/GPIO 69/XOUT1 (io)
part D pins: 18 RESET_N (in), 46 VBUS (in), 48 DM (in), 49 DP (in), 89 TMS (in), 90 TCK (in), 91 TDO (out), 92 TDI (in)
part E pins: 4 VDDIO (power), 5 GND (power), 11 VDDOUT (power), 12 VDDIN (power), 13 GND (power), 21 GND (power), 22 VDDCORE (power), 32 NC, 34 VDDCORE (power), 35 GND (power), 38 VDDCORE (power), 47 VDDIO (power), 50 GND (power), 59 VDDANA (power), 60 ADVREF (power), 61 GNDANA (power), 62 VDDPLL (power), 67 VDDIO (power), 68 VDDIO (power), 69 GND (power), 79 VDDIO (power), 80 GND (power), 97 VDDCORE (power)

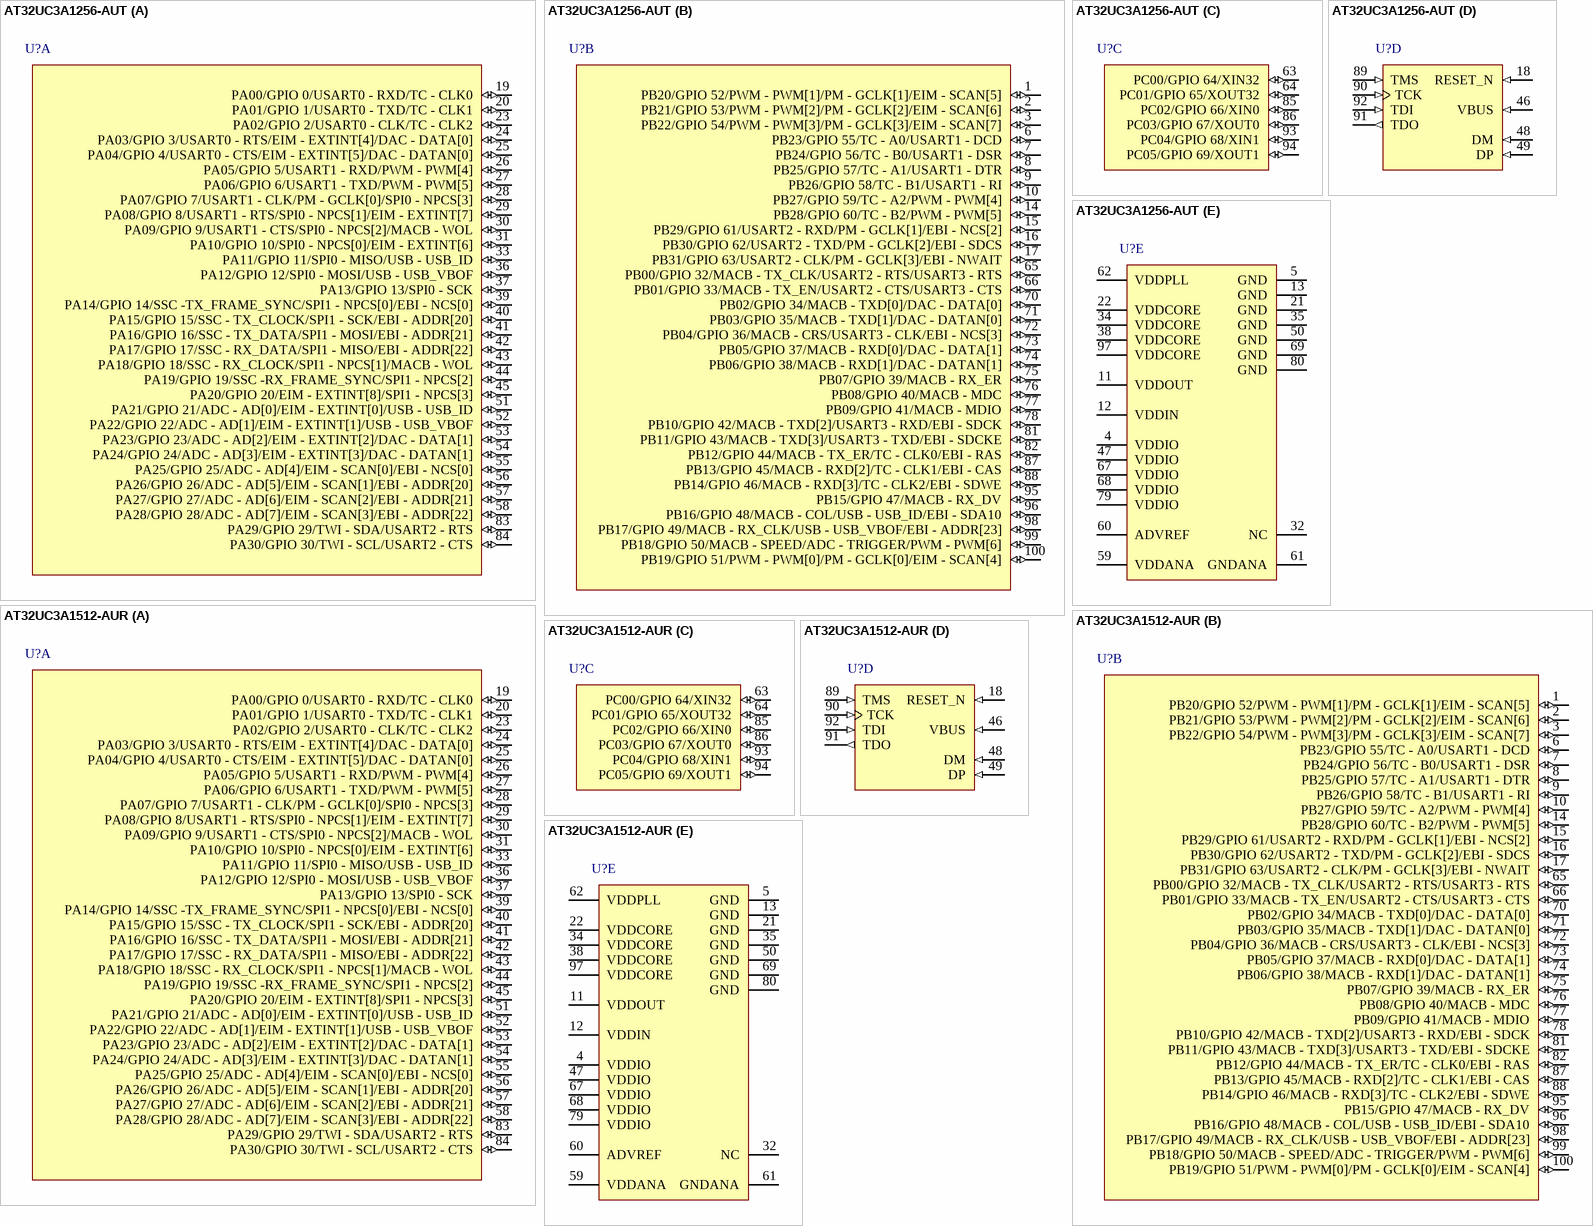
[diagram p26: symbols AT32UC3A1256-AUT to AT32UC3A1512-AUR]

## AT32UC3A1256-AUT
designator U?
32-bit AVR UC3 Microcontroller, 256KB Flash, 64KB SRAM, 69 GPIO pins, 100-Pin TQFP, Industrial Grade, Tray; Published: 1-Apr-2010; DatasheetVersion: revI, Nov-2009; PackageVersion: rev.A, Nov-2001; PackageReference: 100T1; Publisher: Altium Limited; PackageDescription: 100-Pin Thin Quad Flat Pack 0.5 mm Pitch; Supplier 1: Digi-Key; Supplier Part Number 1: AT32UC3A1256-AUT-ND; Supplier 2: Mouser; Supplier Part Number 2: 556-AT32UC3A1256-AUT; Code_JEDEC: MS-026-AED; ComponentLink1Description: Manufacturer Link; ComponentLink1URL: http://www.atmel.com/products/avr/default.asp?; ComponentLink2Description: AT32UC3A Datasheet; ComponentLink2URL: http://www.atmel.com/dyn/resources/prod_documents/doc32058.pdf; ComponentLink3Description: AT32UC3A Summary; ComponentLink3URL: http://www.atmel.com/dyn/resources/prod_documents/32058S.pdf; ComponentLink4Description: Atmel.com Home; ComponentLink4URL: http://www.atmel.com
footprint 100T1_N (Thin QFP, 100-Leads, Body 14x14mm, Pitch 0.5mm, IPC Medium Density)
footprint 100T1_L (Thin QFP, 100-Leads, Body 14x14mm, Pitch 0.5mm, IPC High Density)
footprint 100T1_M (Thin QFP, 100-Leads, Body 14x14mm, Pitch 0.5mm, IPC Low Density)
part A pins: 19 PA00/GPIO 0/USART0 - RXD/TC - CLK0 (io), 20 PA01/GPIO 1/USART0 - TXD/TC - CLK1 (io), 23 PA02/GPIO 2/USART0 - CLK/TC - CLK2 (io), 24 PA03/GPIO 3/USART0 - RTS/EIM - EXTINT[4]/DAC - DATA[0] (io), 25 PA04/GPIO 4/USART0 - CTS/EIM - EXTINT[5]/DAC - DATAN[0] (io), 26 PA05/GPIO 5/USART1 - RXD/PWM - PWM[4] (io), 27 PA06/GPIO 6/USART1 - TXD/PWM - PWM[5] (io), 28 PA07/GPIO 7/USART1 - CLK/PM - GCLK[0]/SPI0 - NPCS[3] (io), 29 PA08/GPIO 8/USART1 - RTS/SPI0 - NPCS[1]/EIM - EXTINT[7] (io), 30 PA09/GPIO 9/USART1 - CTS/SPI0 - NPCS[2]/MACB - WOL (io), 31 PA10/GPIO 10/SPI0 - NPCS[0]/EIM - EXTINT[6] (io), 33 PA11/GPIO 11/SPI0 - MISO/USB - USB_ID (io), 36 PA12/GPIO 12/SPI0 - MOSI/USB - USB_VBOF (io), 37 PA13/GPIO 13/SPI0 - SCK (io), 39 PA14/GPIO 14/SSC -TX_FRAME_SYNC/SPI1 - NPCS[0]/EBI - NCS[0] (io), 40 PA15/GPIO 15/SSC - TX_CLOCK/SPI1 - SCK/EBI - ADDR[20] (io), 41 PA16/GPIO 16/SSC - TX_DATA/SPI1 - MOSI/EBI - ADDR[21] (io), 42 PA17/GPIO 17/SSC - RX_DATA/SPI1 - MISO/EBI - ADDR[22] (io), 43 PA18/GPIO 18/SSC - RX_CLOCK/SPI1 - NPCS[1]/MACB - WOL (io), 44 PA19/GPIO 19/SSC -RX_FRAME_SYNC/SPI1 - NPCS[2] (io), 45 PA20/GPIO 20/EIM - EXTINT[8]/SPI1 - NPCS[3] (io), 51 PA21/GPIO 21/ADC - AD[0]/EIM - EXTINT[0]/USB - USB_ID (io), 52 PA22/GPIO 22/ADC - AD[1]/EIM - EXTINT[1]/USB - USB_VBOF (io), 53 PA23/GPIO 23/ADC - AD[2]/EIM - EXTINT[2]/DAC - DATA[1] (io), 54 PA24/GPIO 24/ADC - AD[3]/EIM - EXTINT[3]/DAC - DATAN[1] (io), 55 PA25/GPIO 25/ADC - AD[4]/EIM - SCAN[0]/EBI - NCS[0] (io), 56 PA26/GPIO 26/ADC - AD[5]/EIM - SCAN[1]/EBI - ADDR[20] (io), 57 PA27/GPIO 27/ADC - AD[6]/EIM - SCAN[2]/EBI - ADDR[21] (io), 58 PA28/GPIO 28/ADC - AD[7]/EIM - SCAN[3]/EBI - ADDR[22] (io), 83 PA29/GPIO 29/TWI - SDA/USART2 - RTS (io), 84 PA30/GPIO 30/TWI - SCL/USART2 - CTS (io)
part B pins: 1 PB20/GPIO 52/PWM - PWM[1]/PM - GCLK[1]/EIM - SCAN[5] (io), 2 PB21/GPIO 53/PWM - PWM[2]/PM - GCLK[2]/EIM - SCAN[6] (io), 3 PB22/GPIO 54/PWM - PWM[3]/PM - GCLK[3]/EIM - SCAN[7] (io), 6 PB23/GPIO 55/TC - A0/USART1 - DCD (io), 7 PB24/GPIO 56/TC - B0/USART1 - DSR (io), 8 PB25/GPIO 57/TC - A1/USART1 - DTR (io), 9 PB26/GPIO 58/TC - B1/USART1 - RI (io), 10 PB27/GPIO 59/TC - A2/PWM - PWM[4] (io), 14 PB28/GPIO 60/TC - B2/PWM - PWM[5] (io), 15 PB29/GPIO 61/USART2 - RXD/PM - GCLK[1]/EBI - NCS[2] (io), 16 PB30/GPIO 62/USART2 - TXD/PM - GCLK[2]/EBI - SDCS (io), 17 PB31/GPIO 63/USART2 - CLK/PM - GCLK[3]/EBI - NWAIT (io), 65 PB00/GPIO 32/MACB - TX_CLK/USART2 - RTS/USART3 - RTS (io), 66 PB01/GPIO 33/MACB - TX_EN/USART2 - CTS/USART3 - CTS (io), 70 PB02/GPIO 34/MACB - TXD[0]/DAC - DATA[0] (io), 71 PB03/GPIO 35/MACB - TXD[1]/DAC - DATAN[0] (io), 72 PB04/GPIO 36/MACB - CRS/USART3 - CLK/EBI - NCS[3] (io), 73 PB05/GPIO 37/MACB - RXD[0]/DAC - DATA[1] (io), 74 PB06/GPIO 38/MACB - RXD[1]/DAC - DATAN[1] (io), 75 PB07/GPIO 39/MACB - RX_ER (io), 76 PB08/GPIO 40/MACB - MDC (io), 77 PB09/GPIO 41/MACB - MDIO (io), 78 PB10/GPIO 42/MACB - TXD[2]/USART3 - RXD/EBI - SDCK (io), 81 PB11/GPIO 43/MACB - TXD[3]/USART3 - TXD/EBI - SDCKE (io), 82 PB12/GPIO 44/MACB - TX_ER/TC - CLK0/EBI - RAS (io), 87 PB13/GPIO 45/MACB - RXD[2]/TC - CLK1/EBI - CAS (io), 88 PB14/GPIO 46/MACB - RXD[3]/TC - CLK2/EBI - SDWE (io), 95 PB15/GPIO 47/MACB - RX_DV (io), 96 PB16/GPIO 48/MACB - COL/USB - USB_ID/EBI - SDA10 (io), 98 PB17/GPIO 49/MACB - RX_CLK/USB - USB_VBOF/EBI - ADDR[23] (io), 99 PB18/GPIO 50/MACB - SPEED/ADC - TRIGGER/PWM - PWM[6] (io), 100 PB19/GPIO 51/PWM - PWM[0]/PM - GCLK[0]/EIM - SCAN[4] (io)
part C pins: 63 PC00/GPIO 64/XIN32 (io), 64 PC01/GPIO 65/XOUT32 (io), 85 PC02/GPIO 66/XIN0 (io), 86 PC03/GPIO 67/XOUT0 (io), 93 PC04/GPIO 68/XIN1 (io), 94 PC05/GPIO 69/XOUT1 (io)
part D pins: 18 RESET_N (in), 46 VBUS (in), 48 DM (in), 49 DP (in), 89 TMS (in), 90 TCK (in), 91 TDO (out), 92 TDI (in)
part E pins: 4 VDDIO (power), 5 GND (power), 11 VDDOUT (power), 12 VDDIN (power), 13 GND (power), 21 GND (power), 22 VDDCORE (power), 32 NC, 34 VDDCORE (power), 35 GND (power), 38 VDDCORE (power), 47 VDDIO (power), 50 GND (power), 59 VDDANA (power), 60 ADVREF (power), 61 GNDANA (power), 62 VDDPLL (power), 67 VDDIO (power), 68 VDDIO (power), 69 GND (power), 79 VDDIO (power), 80 GND (power), 97 VDDCORE (power)

## AT32UC3A1512-AUR
designator U?
32-bit AVR UC3 Microcontroller, 512KB Flash, 64KB SRAM, 69 GPIO pins, 100-Pin TQFP, Industrial Grade, Reel; Published: 1-Apr-2010; DatasheetVersion: revI, Nov-2009; PackageVersion: rev.A, Nov-2001; PackageReference: 100T1; Publisher: Altium Limited; PackageDescription: 100-Pin Thin Quad Flat Pack 0.5 mm Pitch; Supplier 1: Digi-Key; Supplier Part Number 1: AT32UC3A1512-AUR-ND; Supplier 2: Mouser; Supplier Part Number 2: 556-AT32UC3A1512-AUR; Code_JEDEC: MS-026-AED; ComponentLink1Description: Manufacturer Link; ComponentLink1URL: http://www.atmel.com/products/avr/default.asp?; ComponentLink2Description: AT32UC3A Datasheet; ComponentLink2URL: http://www.atmel.com/dyn/resources/prod_documents/doc32058.pdf; ComponentLink3Description: AT32UC3A Summary; ComponentLink3URL: http://www.atmel.com/dyn/resources/prod_documents/32058S.pdf; ComponentLink4Description: Atmel.com Home; ComponentLink4URL: http://www.atmel.com
footprint 100T1_N (Thin QFP, 100-Leads, Body 14x14mm, Pitch 0.5mm, IPC Medium Density)
footprint 100T1_L (Thin QFP, 100-Leads, Body 14x14mm, Pitch 0.5mm, IPC High Density)
footprint 100T1_M (Thin QFP, 100-Leads, Body 14x14mm, Pitch 0.5mm, IPC Low Density)
part A pins: 19 PA00/GPIO 0/USART0 - RXD/TC - CLK0 (io), 20 PA01/GPIO 1/USART0 - TXD/TC - CLK1 (io), 23 PA02/GPIO 2/USART0 - CLK/TC - CLK2 (io), 24 PA03/GPIO 3/USART0 - RTS/EIM - EXTINT[4]/DAC - DATA[0] (io), 25 PA04/GPIO 4/USART0 - CTS/EIM - EXTINT[5]/DAC - DATAN[0] (io), 26 PA05/GPIO 5/USART1 - RXD/PWM - PWM[4] (io), 27 PA06/GPIO 6/USART1 - TXD/PWM - PWM[5] (io), 28 PA07/GPIO 7/USART1 - CLK/PM - GCLK[0]/SPI0 - NPCS[3] (io), 29 PA08/GPIO 8/USART1 - RTS/SPI0 - NPCS[1]/EIM - EXTINT[7] (io), 30 PA09/GPIO 9/USART1 - CTS/SPI0 - NPCS[2]/MACB - WOL (io), 31 PA10/GPIO 10/SPI0 - NPCS[0]/EIM - EXTINT[6] (io), 33 PA11/GPIO 11/SPI0 - MISO/USB - USB_ID (io), 36 PA12/GPIO 12/SPI0 - MOSI/USB - USB_VBOF (io), 37 PA13/GPIO 13/SPI0 - SCK (io), 39 PA14/GPIO 14/SSC -TX_FRAME_SYNC/SPI1 - NPCS[0]/EBI - NCS[0] (io), 40 PA15/GPIO 15/SSC - TX_CLOCK/SPI1 - SCK/EBI - ADDR[20] (io), 41 PA16/GPIO 16/SSC - TX_DATA/SPI1 - MOSI/EBI - ADDR[21] (io), 42 PA17/GPIO 17/SSC - RX_DATA/SPI1 - MISO/EBI - ADDR[22] (io), 43 PA18/GPIO 18/SSC - RX_CLOCK/SPI1 - NPCS[1]/MACB - WOL (io), 44 PA19/GPIO 19/SSC -RX_FRAME_SYNC/SPI1 - NPCS[2] (io), 45 PA20/GPIO 20/EIM - EXTINT[8]/SPI1 - NPCS[3] (io), 51 PA21/GPIO 21/ADC - AD[0]/EIM - EXTINT[0]/USB - USB_ID (io), 52 PA22/GPIO 22/ADC - AD[1]/EIM - EXTINT[1]/USB - USB_VBOF (io), 53 PA23/GPIO 23/ADC - AD[2]/EIM - EXTINT[2]/DAC - DATA[1] (io), 54 PA24/GPIO 24/ADC - AD[3]/EIM - EXTINT[3]/DAC - DATAN[1] (io), 55 PA25/GPIO 25/ADC - AD[4]/EIM - SCAN[0]/EBI - NCS[0] (io), 56 PA26/GPIO 26/ADC - AD[5]/EIM - SCAN[1]/EBI - ADDR[20] (io), 57 PA27/GPIO 27/ADC - AD[6]/EIM - SCAN[2]/EBI - ADDR[21] (io), 58 PA28/GPIO 28/ADC - AD[7]/EIM - SCAN[3]/EBI - ADDR[22] (io), 83 PA29/GPIO 29/TWI - SDA/USART2 - RTS (io), 84 PA30/GPIO 30/TWI - SCL/USART2 - CTS (io)
part B pins: 1 PB20/GPIO 52/PWM - PWM[1]/PM - GCLK[1]/EIM - SCAN[5] (io), 2 PB21/GPIO 53/PWM - PWM[2]/PM - GCLK[2]/EIM - SCAN[6] (io), 3 PB22/GPIO 54/PWM - PWM[3]/PM - GCLK[3]/EIM - SCAN[7] (io), 6 PB23/GPIO 55/TC - A0/USART1 - DCD (io), 7 PB24/GPIO 56/TC - B0/USART1 - DSR (io), 8 PB25/GPIO 57/TC - A1/USART1 - DTR (io), 9 PB26/GPIO 58/TC - B1/USART1 - RI (io), 10 PB27/GPIO 59/TC - A2/PWM - PWM[4] (io), 14 PB28/GPIO 60/TC - B2/PWM - PWM[5] (io), 15 PB29/GPIO 61/USART2 - RXD/PM - GCLK[1]/EBI - NCS[2] (io), 16 PB30/GPIO 62/USART2 - TXD/PM - GCLK[2]/EBI - SDCS (io), 17 PB31/GPIO 63/USART2 - CLK/PM - GCLK[3]/EBI - NWAIT (io), 65 PB00/GPIO 32/MACB - TX_CLK/USART2 - RTS/USART3 - RTS (io), 66 PB01/GPIO 33/MACB - TX_EN/USART2 - CTS/USART3 - CTS (io), 70 PB02/GPIO 34/MACB - TXD[0]/DAC - DATA[0] (io), 71 PB03/GPIO 35/MACB - TXD[1]/DAC - DATAN[0] (io), 72 PB04/GPIO 36/MACB - CRS/USART3 - CLK/EBI - NCS[3] (io), 73 PB05/GPIO 37/MACB - RXD[0]/DAC - DATA[1] (io), 74 PB06/GPIO 38/MACB - RXD[1]/DAC - DATAN[1] (io), 75 PB07/GPIO 39/MACB - RX_ER (io), 76 PB08/GPIO 40/MACB - MDC (io), 77 PB09/GPIO 41/MACB - MDIO (io), 78 PB10/GPIO 42/MACB - TXD[2]/USART3 - RXD/EBI - SDCK (io), 81 PB11/GPIO 43/MACB - TXD[3]/USART3 - TXD/EBI - SDCKE (io), 82 PB12/GPIO 44/MACB - TX_ER/TC - CLK0/EBI - RAS (io), 87 PB13/GPIO 45/MACB - RXD[2]/TC - CLK1/EBI - CAS (io), 88 PB14/GPIO 46/MACB - RXD[3]/TC - CLK2/EBI - SDWE (io), 95 PB15/GPIO 47/MACB - RX_DV (io), 96 PB16/GPIO 48/MACB - COL/USB - USB_ID/EBI - SDA10 (io), 98 PB17/GPIO 49/MACB - RX_CLK/USB - USB_VBOF/EBI - ADDR[23] (io), 99 PB18/GPIO 50/MACB - SPEED/ADC - TRIGGER/PWM - PWM[6] (io), 100 PB19/GPIO 51/PWM - PWM[0]/PM - GCLK[0]/EIM - SCAN[4] (io)
part C pins: 63 PC00/GPIO 64/XIN32 (io), 64 PC01/GPIO 65/XOUT32 (io), 85 PC02/GPIO 66/XIN0 (io), 86 PC03/GPIO 67/XOUT0 (io), 93 PC04/GPIO 68/XIN1 (io), 94 PC05/GPIO 69/XOUT1 (io)
part D pins: 18 RESET_N (in), 46 VBUS (in), 48 DM (in), 49 DP (in), 89 TMS (in), 90 TCK (in), 91 TDO (out), 92 TDI (in)
part E pins: 4 VDDIO (power), 5 GND (power), 11 VDDOUT (power), 12 VDDIN (power), 13 GND (power), 21 GND (power), 22 VDDCORE (power), 32 NC, 34 VDDCORE (power), 35 GND (power), 38 VDDCORE (power), 47 VDDIO (power), 50 GND (power), 59 VDDANA (power), 60 ADVREF (power), 61 GNDANA (power), 62 VDDPLL (power), 67 VDDIO (power), 68 VDDIO (power), 69 GND (power), 79 VDDIO (power), 80 GND (power), 97 VDDCORE (power)

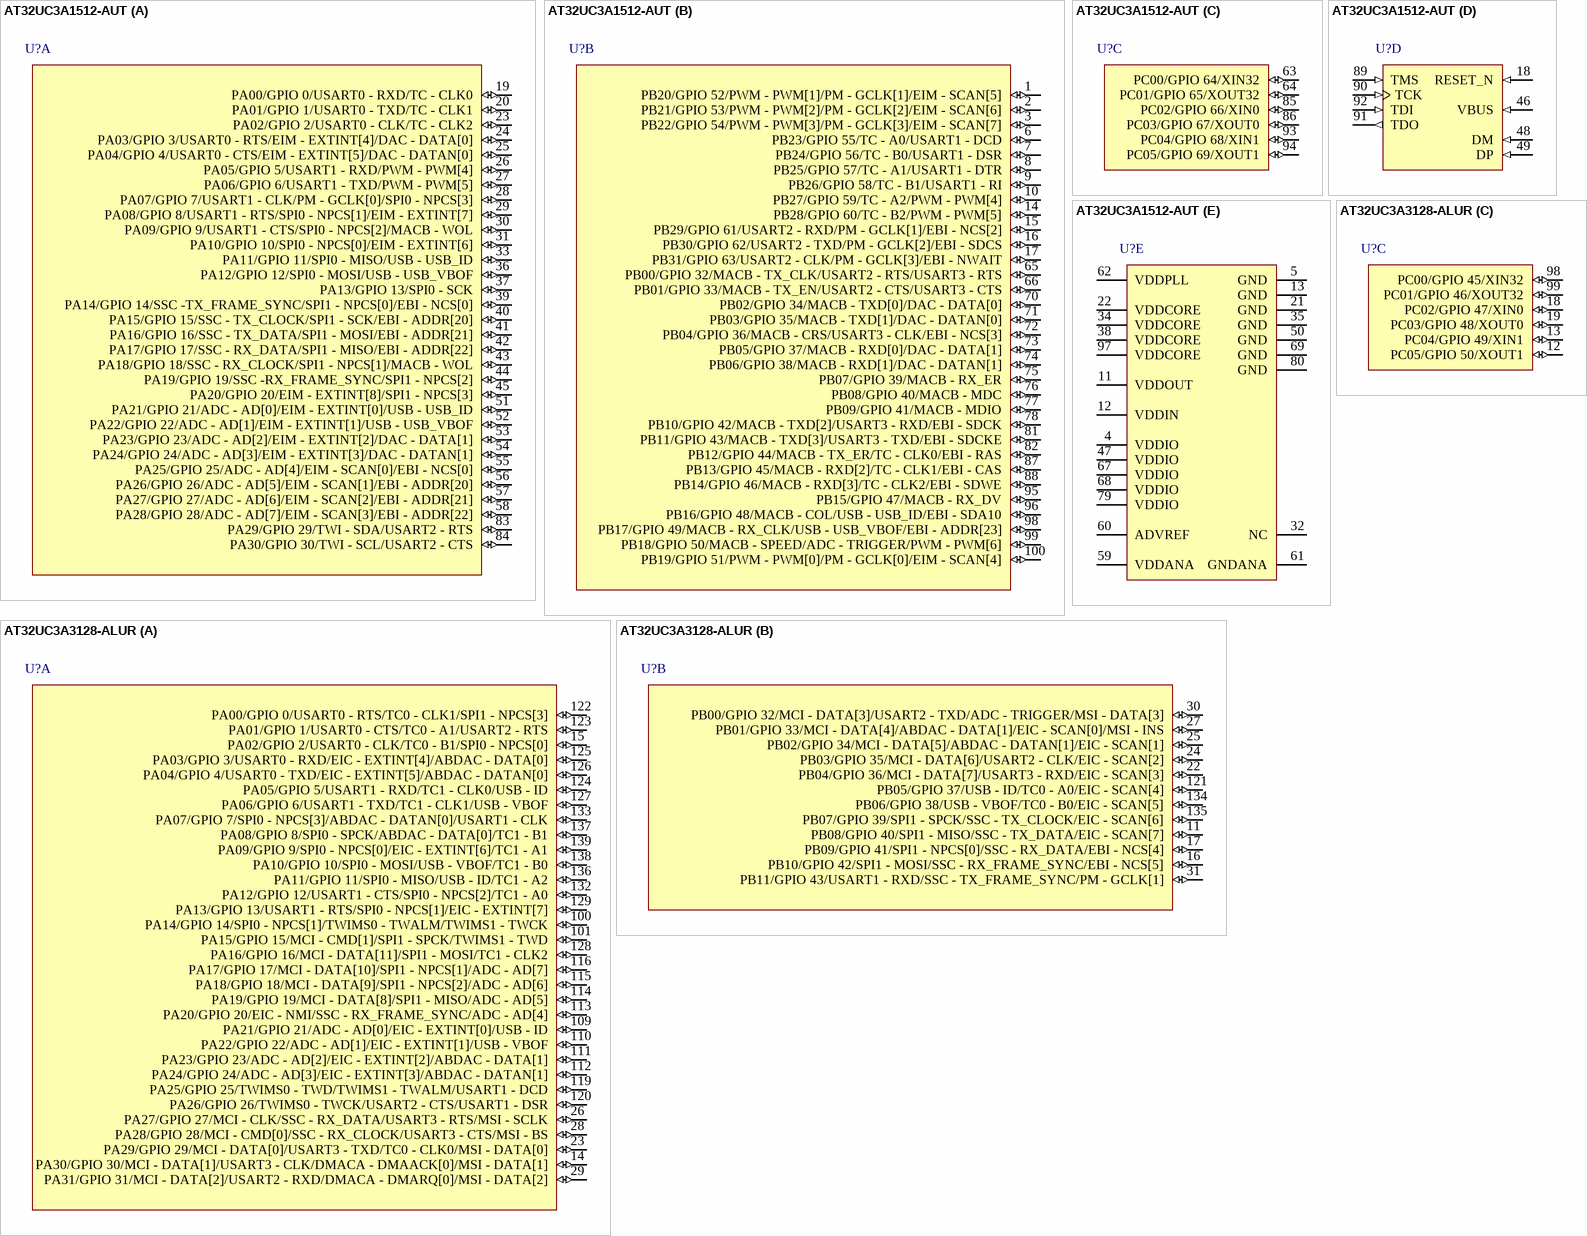
[diagram p27: symbols AT32UC3A1512-AUT to AT32UC3A3128-ALUR]

## AT32UC3A1512-AUT
designator U?
32-bit AVR UC3 Microcontroller, 512KB Flash, 64KB SRAM, 69 GPIO pins, 100-Pin TQFP, Industrial Grade, Tray; Published: 1-Apr-2010; DatasheetVersion: revI, Nov-2009; PackageVersion: rev.A, Nov-2001; PackageReference: 100T1; Publisher: Altium Limited; PackageDescription: 100-Pin Thin Quad Flat Pack 0.5 mm Pitch; Supplier 1: Digi-Key; Supplier Part Number 1: AT32UC3A1512-AUT-ND; Supplier 2: Farnell; Supplier Part Number 2: 1712566; Supplier 3: Mouser; Supplier Part Number 3: 556-AT32UC3A1512-AUT; Code_JEDEC: MS-026-AED; ComponentLink1Description: Manufacturer Link; ComponentLink1URL: http://www.atmel.com/products/avr/default.asp?; ComponentLink2Description: AT32UC3A Datasheet; ComponentLink2URL: http://www.atmel.com/dyn/resources/prod_documents/doc32058.pdf; ComponentLink3Description: AT32UC3A Summary; ComponentLink3URL: http://www.atmel.com/dyn/resources/prod_documents/32058S.pdf; ComponentLink4Description: Atmel.com Home; ComponentLink4URL: http://www.atmel.com
footprint 100T1_N (Thin QFP, 100-Leads, Body 14x14mm, Pitch 0.5mm, IPC Medium Density)
footprint 100T1_L (Thin QFP, 100-Leads, Body 14x14mm, Pitch 0.5mm, IPC High Density)
footprint 100T1_M (Thin QFP, 100-Leads, Body 14x14mm, Pitch 0.5mm, IPC Low Density)
part A pins: 19 PA00/GPIO 0/USART0 - RXD/TC - CLK0 (io), 20 PA01/GPIO 1/USART0 - TXD/TC - CLK1 (io), 23 PA02/GPIO 2/USART0 - CLK/TC - CLK2 (io), 24 PA03/GPIO 3/USART0 - RTS/EIM - EXTINT[4]/DAC - DATA[0] (io), 25 PA04/GPIO 4/USART0 - CTS/EIM - EXTINT[5]/DAC - DATAN[0] (io), 26 PA05/GPIO 5/USART1 - RXD/PWM - PWM[4] (io), 27 PA06/GPIO 6/USART1 - TXD/PWM - PWM[5] (io), 28 PA07/GPIO 7/USART1 - CLK/PM - GCLK[0]/SPI0 - NPCS[3] (io), 29 PA08/GPIO 8/USART1 - RTS/SPI0 - NPCS[1]/EIM - EXTINT[7] (io), 30 PA09/GPIO 9/USART1 - CTS/SPI0 - NPCS[2]/MACB - WOL (io), 31 PA10/GPIO 10/SPI0 - NPCS[0]/EIM - EXTINT[6] (io), 33 PA11/GPIO 11/SPI0 - MISO/USB - USB_ID (io), 36 PA12/GPIO 12/SPI0 - MOSI/USB - USB_VBOF (io), 37 PA13/GPIO 13/SPI0 - SCK (io), 39 PA14/GPIO 14/SSC -TX_FRAME_SYNC/SPI1 - NPCS[0]/EBI - NCS[0] (io), 40 PA15/GPIO 15/SSC - TX_CLOCK/SPI1 - SCK/EBI - ADDR[20] (io), 41 PA16/GPIO 16/SSC - TX_DATA/SPI1 - MOSI/EBI - ADDR[21] (io), 42 PA17/GPIO 17/SSC - RX_DATA/SPI1 - MISO/EBI - ADDR[22] (io), 43 PA18/GPIO 18/SSC - RX_CLOCK/SPI1 - NPCS[1]/MACB - WOL (io), 44 PA19/GPIO 19/SSC -RX_FRAME_SYNC/SPI1 - NPCS[2] (io), 45 PA20/GPIO 20/EIM - EXTINT[8]/SPI1 - NPCS[3] (io), 51 PA21/GPIO 21/ADC - AD[0]/EIM - EXTINT[0]/USB - USB_ID (io), 52 PA22/GPIO 22/ADC - AD[1]/EIM - EXTINT[1]/USB - USB_VBOF (io), 53 PA23/GPIO 23/ADC - AD[2]/EIM - EXTINT[2]/DAC - DATA[1] (io), 54 PA24/GPIO 24/ADC - AD[3]/EIM - EXTINT[3]/DAC - DATAN[1] (io), 55 PA25/GPIO 25/ADC - AD[4]/EIM - SCAN[0]/EBI - NCS[0] (io), 56 PA26/GPIO 26/ADC - AD[5]/EIM - SCAN[1]/EBI - ADDR[20] (io), 57 PA27/GPIO 27/ADC - AD[6]/EIM - SCAN[2]/EBI - ADDR[21] (io), 58 PA28/GPIO 28/ADC - AD[7]/EIM - SCAN[3]/EBI - ADDR[22] (io), 83 PA29/GPIO 29/TWI - SDA/USART2 - RTS (io), 84 PA30/GPIO 30/TWI - SCL/USART2 - CTS (io)
part B pins: 1 PB20/GPIO 52/PWM - PWM[1]/PM - GCLK[1]/EIM - SCAN[5] (io), 2 PB21/GPIO 53/PWM - PWM[2]/PM - GCLK[2]/EIM - SCAN[6] (io), 3 PB22/GPIO 54/PWM - PWM[3]/PM - GCLK[3]/EIM - SCAN[7] (io), 6 PB23/GPIO 55/TC - A0/USART1 - DCD (io), 7 PB24/GPIO 56/TC - B0/USART1 - DSR (io), 8 PB25/GPIO 57/TC - A1/USART1 - DTR (io), 9 PB26/GPIO 58/TC - B1/USART1 - RI (io), 10 PB27/GPIO 59/TC - A2/PWM - PWM[4] (io), 14 PB28/GPIO 60/TC - B2/PWM - PWM[5] (io), 15 PB29/GPIO 61/USART2 - RXD/PM - GCLK[1]/EBI - NCS[2] (io), 16 PB30/GPIO 62/USART2 - TXD/PM - GCLK[2]/EBI - SDCS (io), 17 PB31/GPIO 63/USART2 - CLK/PM - GCLK[3]/EBI - NWAIT (io), 65 PB00/GPIO 32/MACB - TX_CLK/USART2 - RTS/USART3 - RTS (io), 66 PB01/GPIO 33/MACB - TX_EN/USART2 - CTS/USART3 - CTS (io), 70 PB02/GPIO 34/MACB - TXD[0]/DAC - DATA[0] (io), 71 PB03/GPIO 35/MACB - TXD[1]/DAC - DATAN[0] (io), 72 PB04/GPIO 36/MACB - CRS/USART3 - CLK/EBI - NCS[3] (io), 73 PB05/GPIO 37/MACB - RXD[0]/DAC - DATA[1] (io), 74 PB06/GPIO 38/MACB - RXD[1]/DAC - DATAN[1] (io), 75 PB07/GPIO 39/MACB - RX_ER (io), 76 PB08/GPIO 40/MACB - MDC (io), 77 PB09/GPIO 41/MACB - MDIO (io), 78 PB10/GPIO 42/MACB - TXD[2]/USART3 - RXD/EBI - SDCK (io), 81 PB11/GPIO 43/MACB - TXD[3]/USART3 - TXD/EBI - SDCKE (io), 82 PB12/GPIO 44/MACB - TX_ER/TC - CLK0/EBI - RAS (io), 87 PB13/GPIO 45/MACB - RXD[2]/TC - CLK1/EBI - CAS (io), 88 PB14/GPIO 46/MACB - RXD[3]/TC - CLK2/EBI - SDWE (io), 95 PB15/GPIO 47/MACB - RX_DV (io), 96 PB16/GPIO 48/MACB - COL/USB - USB_ID/EBI - SDA10 (io), 98 PB17/GPIO 49/MACB - RX_CLK/USB - USB_VBOF/EBI - ADDR[23] (io), 99 PB18/GPIO 50/MACB - SPEED/ADC - TRIGGER/PWM - PWM[6] (io), 100 PB19/GPIO 51/PWM - PWM[0]/PM - GCLK[0]/EIM - SCAN[4] (io)
part C pins: 63 PC00/GPIO 64/XIN32 (io), 64 PC01/GPIO 65/XOUT32 (io), 85 PC02/GPIO 66/XIN0 (io), 86 PC03/GPIO 67/XOUT0 (io), 93 PC04/GPIO 68/XIN1 (io), 94 PC05/GPIO 69/XOUT1 (io)
part D pins: 18 RESET_N (in), 46 VBUS (in), 48 DM (in), 49 DP (in), 89 TMS (in), 90 TCK (in), 91 TDO (out), 92 TDI (in)
part E pins: 4 VDDIO (power), 5 GND (power), 11 VDDOUT (power), 12 VDDIN (power), 13 GND (power), 21 GND (power), 22 VDDCORE (power), 32 NC, 34 VDDCORE (power), 35 GND (power), 38 VDDCORE (power), 47 VDDIO (power), 50 GND (power), 59 VDDANA (power), 60 ADVREF (power), 61 GNDANA (power), 62 VDDPLL (power), 67 VDDIO (power), 68 VDDIO (power), 69 GND (power), 79 VDDIO (power), 80 GND (power), 97 VDDCORE (power)

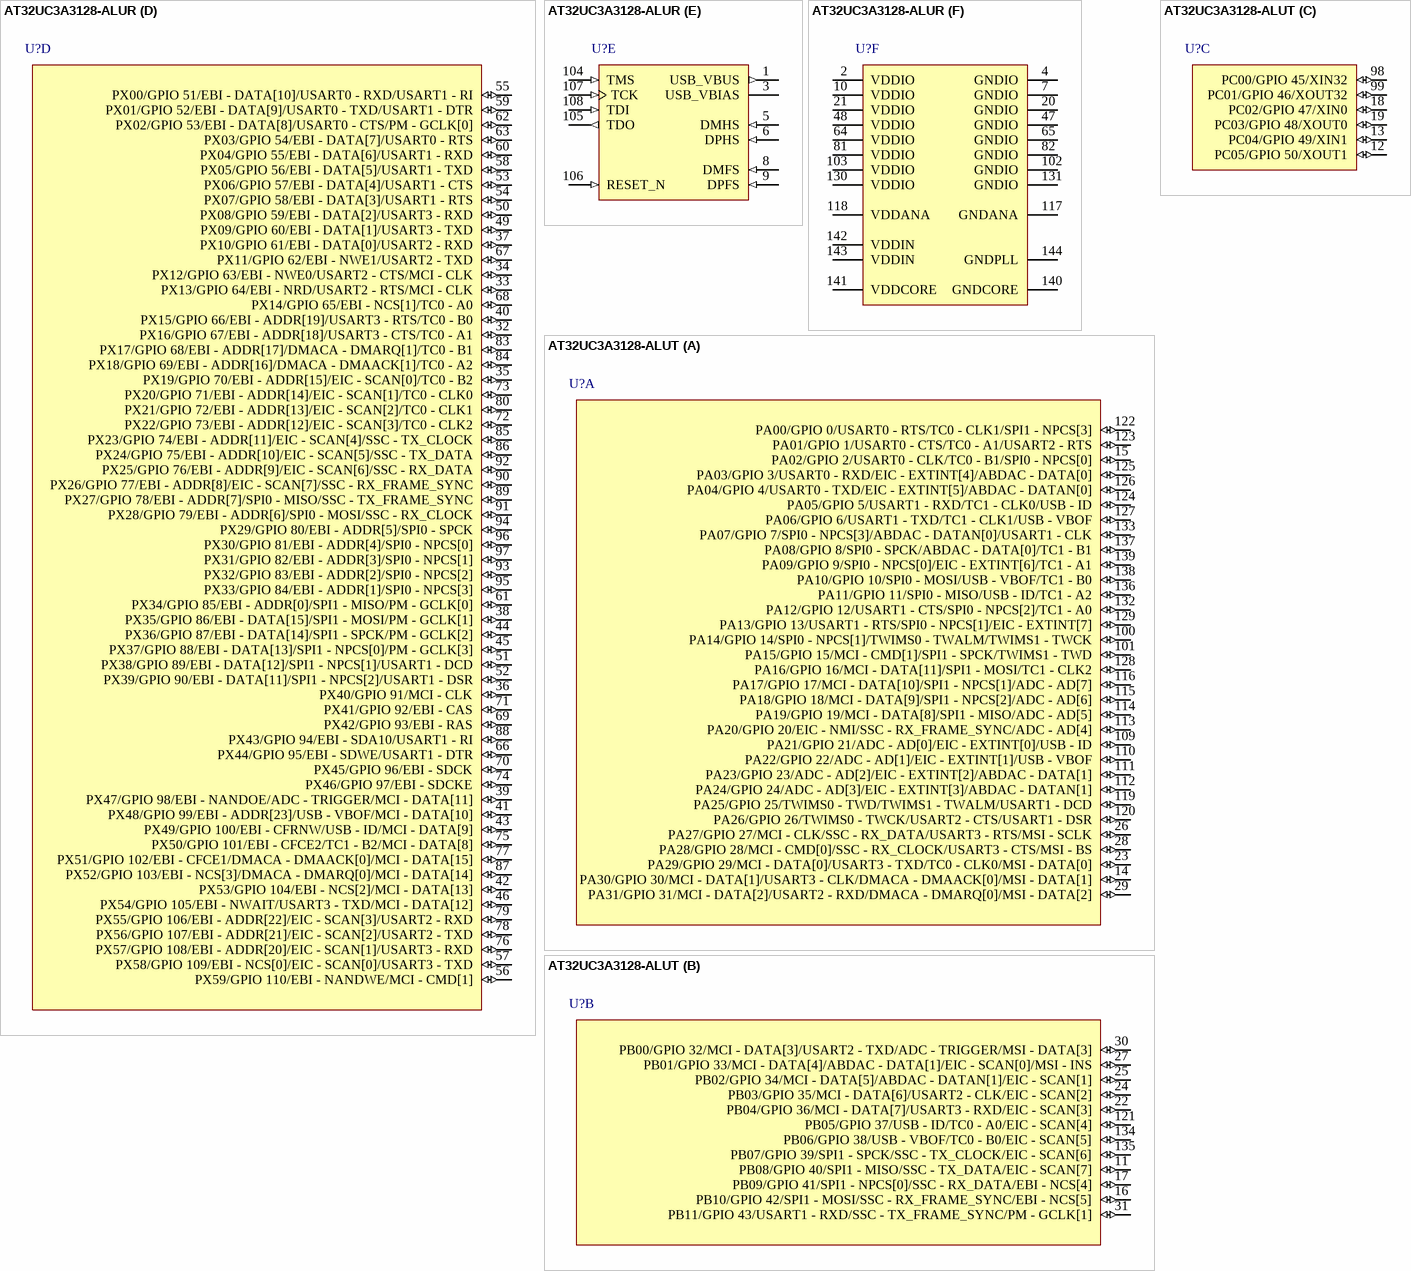
[diagram p28: symbols AT32UC3A3128-ALUR to AT32UC3A3128-ALUT]